# Altium integrated library Renesas Microcontroller M16C.IntLib: 423 symbols (part 18 of 30)
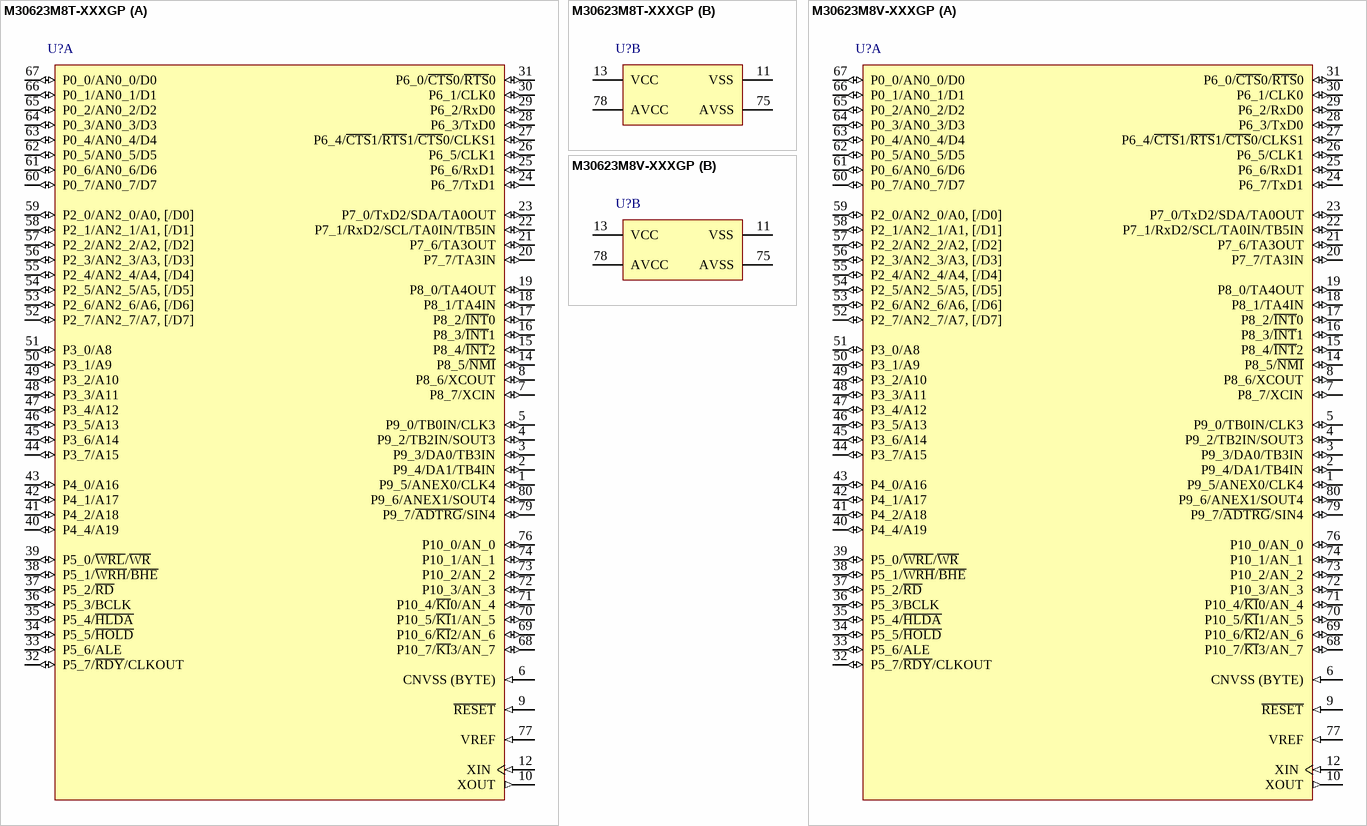
[diagram p203: symbols M30623M8T-XXXGP to M30623M8V-XXXGP]

## M30623M8V-XXXGP
designator U?
Mask ROM M16C/60 Series, 62T Group MCU, 64K ROM, 4K RAM, 80-pin QFP, +125°C; Note: P7_0 and P7_1 are N channel open-drain output pins.; Published: 28-Aug-2009; DatasheetVersion: Rev.A1, Aug-1999; PackageVersion: Sep-2005; PackageReference: PRQP0080JA-A; Publisher: Altium Limited; PackageDescription: 80-Pin Plastic Quad Flat Pack, 14 x 14 x 2.8 mm Body, 0.65 mm Pitch; Code_JEITA: P-QFP80-14x14-0.65; ComponentLink1Description: Manufacturer Link; ComponentLink1URL: http://sg.renesas.com/fmwk.jsp?cnt=m16c_family_landing.jsp&fp=/products/mpumcu/m16c_family/; ComponentLink2Description: Datasheet; ComponentLink2URL: http://documentation.renesas.com/eng/products/mpumcu/62teds.pdf; ComponentLink3Description: Packaging Specification; ComponentLink3URL: http://sg.renesas.com/media/products/common_info/package/pdf/ic/code/prqp0080ja_a.pdf
footprint PRQP0080JA-A_N (QFP, 80-Leads, Body 14x14mm, Pitch 0.65mm, IPC Medium Density)
footprint PRQP0080JA-A_L (QFP, 80-Leads, Body 14x14mm, Pitch 0.65mm, IPC High Density)
footprint PRQP0080JA-A_M (QFP, 80-Leads, Body 14x14mm, Pitch 0.65mm, IPC Low Density)
part A pins: 1 P9_5/ANEX0/CLK4 (io), 2 P9_4/DA1/TB4IN (io), 3 P9_3/DA0/TB3IN (io), 4 P9_2/TB2IN/SOUT3 (io), 5 P9_0/TB0IN/CLK3 (io), 6 CNVSS (BYTE) (in), 7 P8_7/XCIN (io), 8 P8_6/XCOUT (io), 9 ~{RESET} (in), 10 XOUT (out), 12 XIN (in), 14 P8_5/~{NMI} (io), 15 P8_4/~{INT}2 (io), 16 P8_3/~{INT}1 (io), 17 P8_2/~{INT}0 (io), 18 P8_1/TA4IN (io), 19 P8_0/TA4OUT (io), 20 P7_7/TA3IN (io), 21 P7_6/TA3OUT (io), 22 P7_1/RxD2/SCL/TA0IN/TB5IN (io), 23 P7_0/TxD2/SDA/TA0OUT (io), 24 P6_7/TxD1 (io), 25 P6_6/RxD1 (io), 26 P6_5/CLK1 (io), 27 P6_4/~{CTS}1/~{RTS}1/~{CTS}0/CLKS1 (io), 28 P6_3/TxD0 (io), 29 P6_2/RxD0 (io), 30 P6_1/CLK0 (io), 31 P6_0/~{CTS}0/~{RTS}0 (io), 32 P5_7/~{RDY}/CLKOUT (io), 33 P5_6/ALE (io), 34 P5_5/~{HOLD} (io), 35 P5_4/~{HLDA} (io), 36 P5_3/BCLK (io), 37 P5_2/~{RD} (io), 38 P5_1/~{WRH}/~{BHE} (io), 39 P5_0/~{WRL}/~{WR} (io), 40 P4_4/A19 (io), 41 P4_2/A18 (io), 42 P4_1/A17 (io), 43 P4_0/A16 (io), 44 P3_7/A15 (io), 45 P3_6/A14 (io), 46 P3_5/A13 (io), 47 P3_4/A12 (io), 48 P3_3/A11 (io), 49 P3_2/A10 (io), 50 P3_1/A9 (io), 51 P3_0/A8 (io), 52 P2_7/AN2_7/A7, [/D7] (io), 53 P2_6/AN2_6/A6, [/D6] (io), 54 P2_5/AN2_5/A5, [/D5] (io), 55 P2_4/AN2_4/A4, [/D4] (io), 56 P2_3/AN2_3/A3, [/D3] (io), 57 P2_2/AN2_2/A2, [/D2] (io), 58 P2_1/AN2_1/A1, [/D1] (io), 59 P2_0/AN2_0/A0, [/D0] (io), 60 P0_7/AN0_7/D7 (io), 61 P0_6/AN0_6/D6 (io), 62 P0_5/AN0_5/D5 (io), 63 P0_4/AN0_4/D4 (io), 64 P0_3/AN0_3/D3 (io), 65 P0_2/AN0_2/D2 (io), 66 P0_1/AN0_1/D1 (io), 67 P0_0/AN0_0/D0 (io), 68 P10_7/~{KI}3/AN_7 (io), 69 P10_6/~{KI}2/AN_6 (io), 70 P10_5/~{KI}1/AN_5 (io), 71 P10_4/~{KI}0/AN_4 (io), 72 P10_3/AN_3 (io), 73 P10_2/AN_2 (io), 74 P10_1/AN_1 (io), 76 P10_0/AN_0 (io), 77 VREF (in), 79 P9_7/~{ADTRG}/SIN4 (io), 80 P9_6/ANEX1/SOUT4 (io)
part B pins: 11 VSS (power), 13 VCC (power), 75 AVSS (power), 78 AVCC (power)

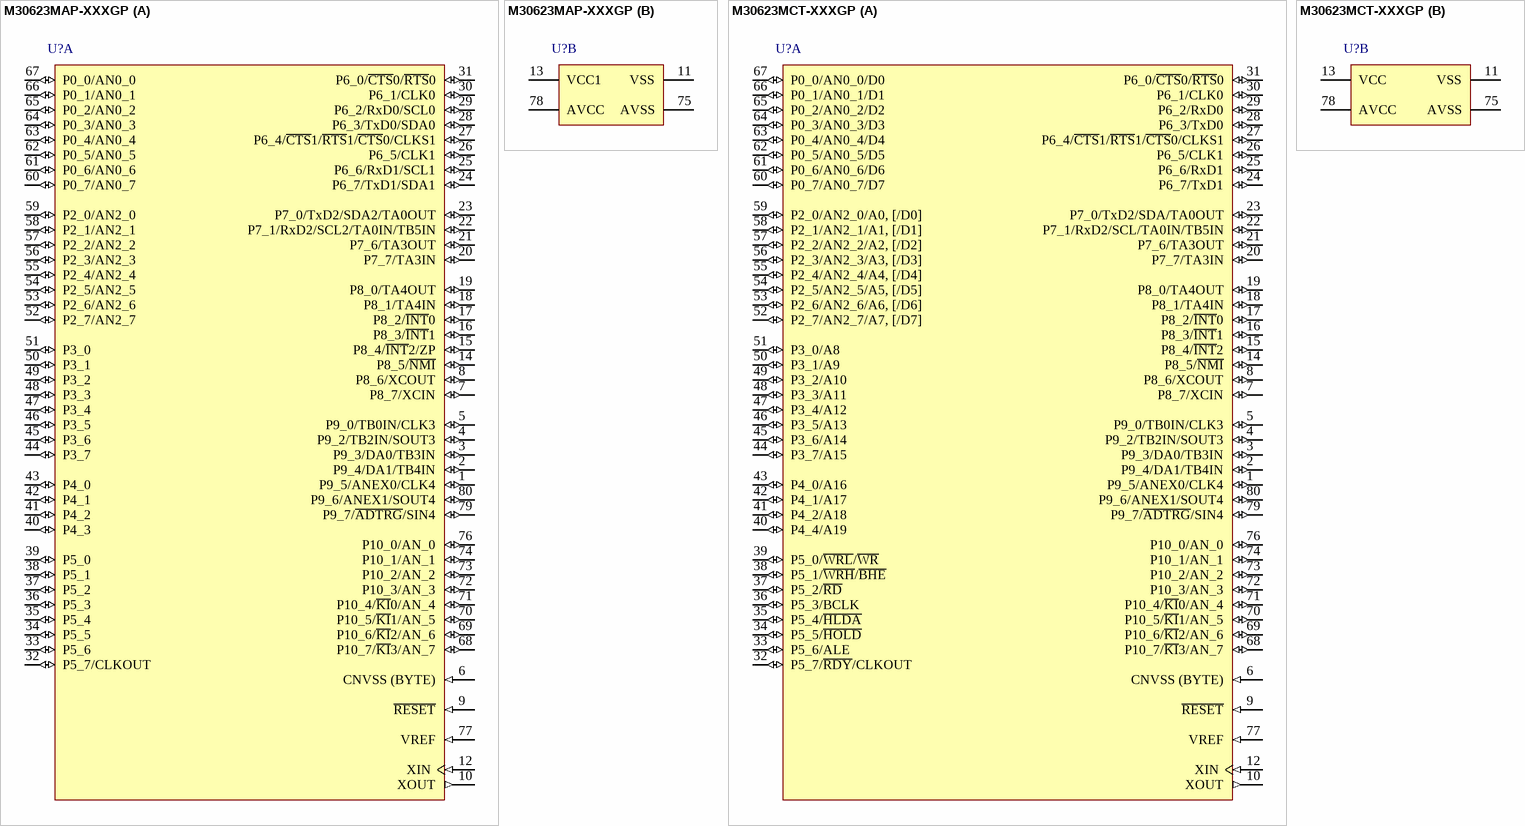
[diagram p107: symbols M30623MAP-XXXGP to M30623MCT-XXXGP]

## M30623MAP-XXXGP
designator U?
Mask ROM M16C/60 Series, 62P Group MCU, 96K ROM, 5K RAM, 80-pin QFP; Note: P7_0 and P7_1 are N channel open-drain output pins.; Published: 28-Aug-2009; DatasheetVersion: Rev.2.41, Jan-2006; PackageVersion: Sep-2005; PackageReference: PRQP0080JA-A; Publisher: Altium Limited; PackageDescription: 80-Pin Plastic Quad Flat Pack, 14 x 14 x 2.8 mm Body, 0.65 mm Pitch; Code_JEITA: P-QFP80-14x14-0.65; ComponentLink1Description: Manufacturer Link; ComponentLink1URL: http://sg.renesas.com/fmwk.jsp?cnt=m16c_family_landing.jsp&fp=/products/mpumcu/m16c_family/; ComponentLink2Description: Datasheet; ComponentLink2URL: http://documentation.renesas.com/eng/products/mpumcu/rej09b0185_16c62pthm.pdf; ComponentLink3Description: Packaging Specification; ComponentLink3URL: http://sg.renesas.com/media/products/common_info/package/pdf/ic/code/prqp0080ja_a.pdf
footprint PRQP0080JA-A_N (QFP, 80-Leads, Body 14x14mm, Pitch 0.65mm, IPC Medium Density)
footprint PRQP0080JA-A_L (QFP, 80-Leads, Body 14x14mm, Pitch 0.65mm, IPC High Density)
footprint PRQP0080JA-A_M (QFP, 80-Leads, Body 14x14mm, Pitch 0.65mm, IPC Low Density)
part A pins: 1 P9_5/ANEX0/CLK4 (io), 2 P9_4/DA1/TB4IN (io), 3 P9_3/DA0/TB3IN (io), 4 P9_2/TB2IN/SOUT3 (io), 5 P9_0/TB0IN/CLK3 (io), 6 CNVSS (BYTE) (in), 7 P8_7/XCIN (io), 8 P8_6/XCOUT (io), 9 ~{RESET} (in), 10 XOUT (out), 12 XIN (in), 14 P8_5/~{NMI} (io), 15 P8_4/~{INT}2/ZP (io), 16 P8_3/~{INT}1 (io), 17 P8_2/~{INT}0 (io), 18 P8_1/TA4IN (io), 19 P8_0/TA4OUT (io), 20 P7_7/TA3IN (io), 21 P7_6/TA3OUT (io), 22 P7_1/RxD2/SCL2/TA0IN/TB5IN (io), 23 P7_0/TxD2/SDA2/TA0OUT (io), 24 P6_7/TxD1/SDA1 (io), 25 P6_6/RxD1/SCL1 (io), 26 P6_5/CLK1 (io), 27 P6_4/~{CTS}1/~{RTS}1/~{CTS}0/CLKS1 (io), 28 P6_3/TxD0/SDA0 (io), 29 P6_2/RxD0/SCL0 (io), 30 P6_1/CLK0 (io), 31 P6_0/~{CTS}0/~{RTS}0 (io), 32 P5_7/CLKOUT (io), 33 P5_6 (io), 34 P5_5 (io), 35 P5_4 (io), 36 P5_3 (io), 37 P5_2 (io), 38 P5_1 (io), 39 P5_0 (io), 40 P4_3 (io), 41 P4_2 (io), 42 P4_1 (io), 43 P4_0 (io), 44 P3_7 (io), 45 P3_6 (io), 46 P3_5 (io), 47 P3_4 (io), 48 P3_3 (io), 49 P3_2 (io), 50 P3_1 (io), 51 P3_0 (io), 52 P2_7/AN2_7 (io), 53 P2_6/AN2_6 (io), 54 P2_5/AN2_5 (io), 55 P2_4/AN2_4 (io), 56 P2_3/AN2_3 (io), 57 P2_2/AN2_2 (io), 58 P2_1/AN2_1 (io), 59 P2_0/AN2_0 (io), 60 P0_7/AN0_7 (io), 61 P0_6/AN0_6 (io), 62 P0_5/AN0_5 (io), 63 P0_4/AN0_4 (io), 64 P0_3/AN0_3 (io), 65 P0_2/AN0_2 (io), 66 P0_1/AN0_1 (io), 67 P0_0/AN0_0 (io), 68 P10_7/~{KI}3/AN_7 (io), 69 P10_6/~{KI}2/AN_6 (io), 70 P10_5/~{KI}1/AN_5 (io), 71 P10_4/~{KI}0/AN_4 (io), 72 P10_3/AN_3 (io), 73 P10_2/AN_2 (io), 74 P10_1/AN_1 (io), 76 P10_0/AN_0 (io), 77 VREF (in), 79 P9_7/~{ADTRG}/SIN4 (io), 80 P9_6/ANEX1/SOUT4 (io)
part B pins: 11 VSS (power), 13 VCC1 (power), 75 AVSS (power), 78 AVCC (power)

## M30623MCT-XXXGP
designator U?
Mask ROM M16C/60 Series, 62T Group MCU, 128K ROM, 5K RAM, 80-pin QFP, +85°C; Note: P7_0 and P7_1 are N channel open-drain output pins.; Published: 28-Aug-2009; DatasheetVersion: Rev.A1, Aug-1999; PackageVersion: Sep-2005; PackageReference: PRQP0080JA-A; Publisher: Altium Limited; PackageDescription: 80-Pin Plastic Quad Flat Pack, 14 x 14 x 2.8 mm Body, 0.65 mm Pitch; Code_JEITA: P-QFP80-14x14-0.65; ComponentLink1Description: Manufacturer Link; ComponentLink1URL: http://sg.renesas.com/fmwk.jsp?cnt=m16c_family_landing.jsp&fp=/products/mpumcu/m16c_family/; ComponentLink2Description: Datasheet; ComponentLink2URL: http://documentation.renesas.com/eng/products/mpumcu/62teds.pdf; ComponentLink3Description: Packaging Specification; ComponentLink3URL: http://sg.renesas.com/media/products/common_info/package/pdf/ic/code/prqp0080ja_a.pdf
footprint PRQP0080JA-A_N (QFP, 80-Leads, Body 14x14mm, Pitch 0.65mm, IPC Medium Density)
footprint PRQP0080JA-A_L (QFP, 80-Leads, Body 14x14mm, Pitch 0.65mm, IPC High Density)
footprint PRQP0080JA-A_M (QFP, 80-Leads, Body 14x14mm, Pitch 0.65mm, IPC Low Density)
part A pins: 1 P9_5/ANEX0/CLK4 (io), 2 P9_4/DA1/TB4IN (io), 3 P9_3/DA0/TB3IN (io), 4 P9_2/TB2IN/SOUT3 (io), 5 P9_0/TB0IN/CLK3 (io), 6 CNVSS (BYTE) (in), 7 P8_7/XCIN (io), 8 P8_6/XCOUT (io), 9 ~{RESET} (in), 10 XOUT (out), 12 XIN (in), 14 P8_5/~{NMI} (io), 15 P8_4/~{INT}2 (io), 16 P8_3/~{INT}1 (io), 17 P8_2/~{INT}0 (io), 18 P8_1/TA4IN (io), 19 P8_0/TA4OUT (io), 20 P7_7/TA3IN (io), 21 P7_6/TA3OUT (io), 22 P7_1/RxD2/SCL/TA0IN/TB5IN (io), 23 P7_0/TxD2/SDA/TA0OUT (io), 24 P6_7/TxD1 (io), 25 P6_6/RxD1 (io), 26 P6_5/CLK1 (io), 27 P6_4/~{CTS}1/~{RTS}1/~{CTS}0/CLKS1 (io), 28 P6_3/TxD0 (io), 29 P6_2/RxD0 (io), 30 P6_1/CLK0 (io), 31 P6_0/~{CTS}0/~{RTS}0 (io), 32 P5_7/~{RDY}/CLKOUT (io), 33 P5_6/ALE (io), 34 P5_5/~{HOLD} (io), 35 P5_4/~{HLDA} (io), 36 P5_3/BCLK (io), 37 P5_2/~{RD} (io), 38 P5_1/~{WRH}/~{BHE} (io), 39 P5_0/~{WRL}/~{WR} (io), 40 P4_4/A19 (io), 41 P4_2/A18 (io), 42 P4_1/A17 (io), 43 P4_0/A16 (io), 44 P3_7/A15 (io), 45 P3_6/A14 (io), 46 P3_5/A13 (io), 47 P3_4/A12 (io), 48 P3_3/A11 (io), 49 P3_2/A10 (io), 50 P3_1/A9 (io), 51 P3_0/A8 (io), 52 P2_7/AN2_7/A7, [/D7] (io), 53 P2_6/AN2_6/A6, [/D6] (io), 54 P2_5/AN2_5/A5, [/D5] (io), 55 P2_4/AN2_4/A4, [/D4] (io), 56 P2_3/AN2_3/A3, [/D3] (io), 57 P2_2/AN2_2/A2, [/D2] (io), 58 P2_1/AN2_1/A1, [/D1] (io), 59 P2_0/AN2_0/A0, [/D0] (io), 60 P0_7/AN0_7/D7 (io), 61 P0_6/AN0_6/D6 (io), 62 P0_5/AN0_5/D5 (io), 63 P0_4/AN0_4/D4 (io), 64 P0_3/AN0_3/D3 (io), 65 P0_2/AN0_2/D2 (io), 66 P0_1/AN0_1/D1 (io), 67 P0_0/AN0_0/D0 (io), 68 P10_7/~{KI}3/AN_7 (io), 69 P10_6/~{KI}2/AN_6 (io), 70 P10_5/~{KI}1/AN_5 (io), 71 P10_4/~{KI}0/AN_4 (io), 72 P10_3/AN_3 (io), 73 P10_2/AN_2 (io), 74 P10_1/AN_1 (io), 76 P10_0/AN_0 (io), 77 VREF (in), 79 P9_7/~{ADTRG}/SIN4 (io), 80 P9_6/ANEX1/SOUT4 (io)
part B pins: 11 VSS (power), 13 VCC (power), 75 AVSS (power), 78 AVCC (power)

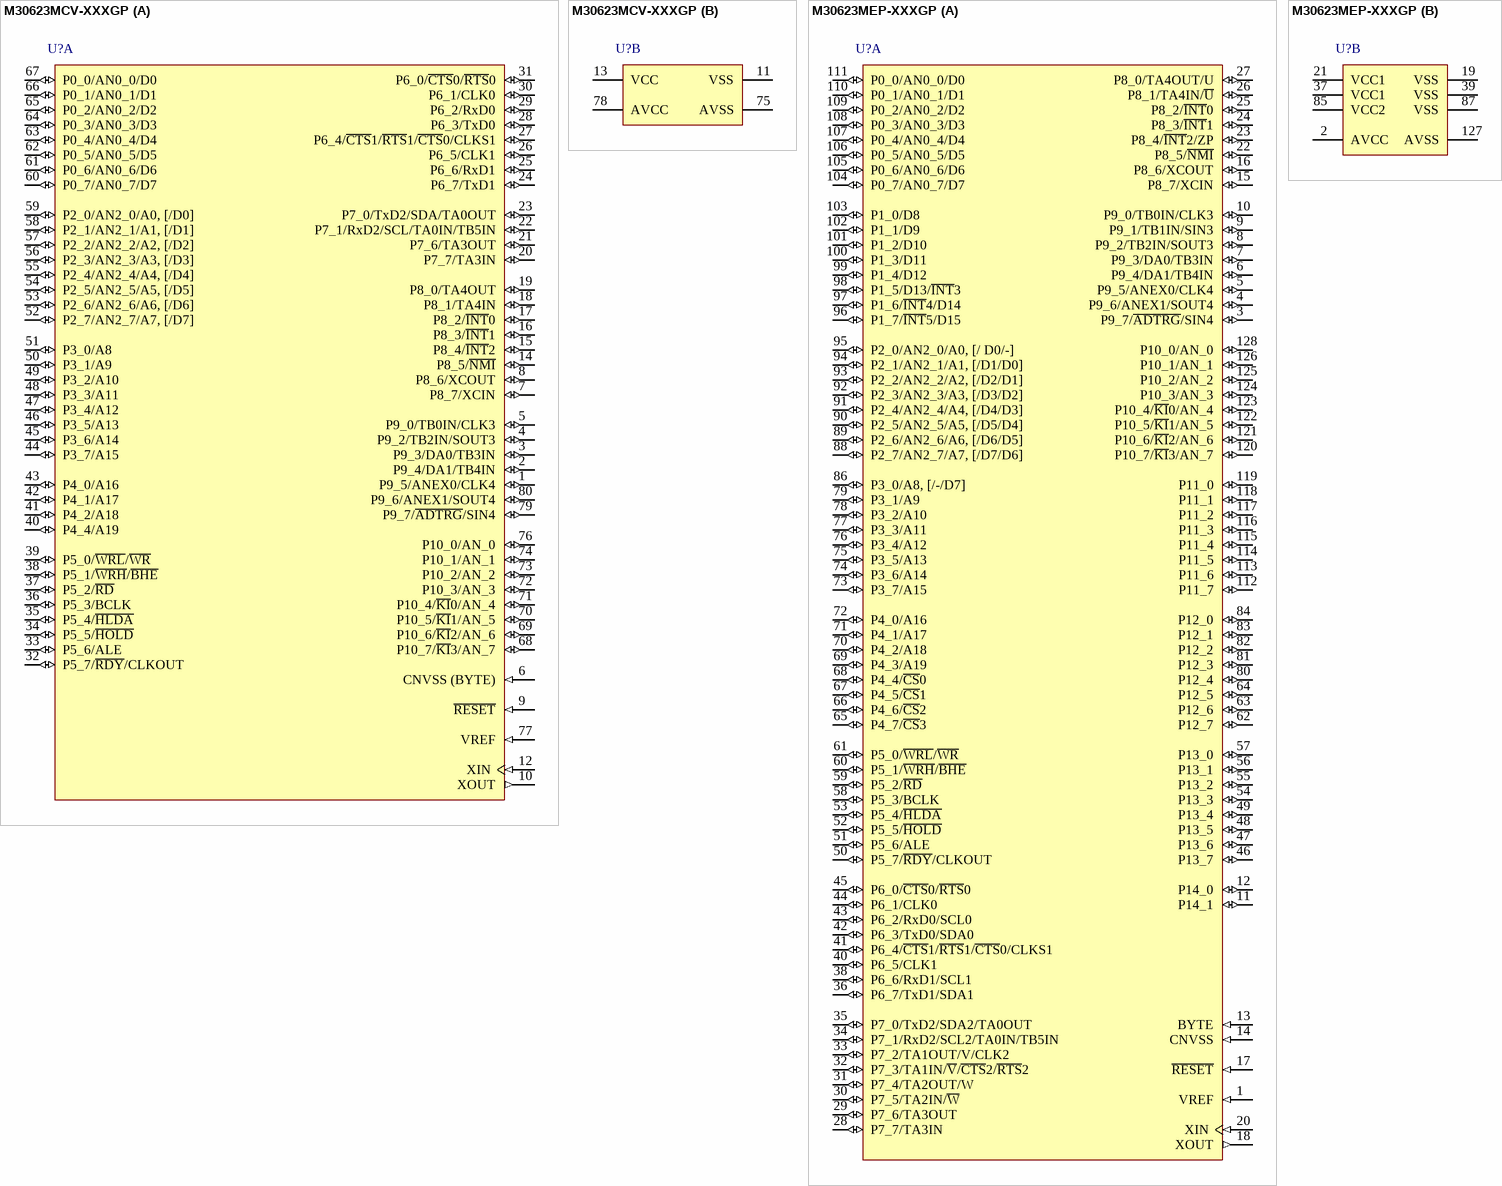
[diagram p108: symbols M30623MCV-XXXGP to M30623MEP-XXXGP]

## M30623MCV-XXXGP
designator U?
Mask ROM M16C/60 Series, 62T Group MCU, 128K ROM, 5K RAM, 80-pin QFP, +125°C; Note: P7_0 and P7_1 are N channel open-drain output pins.; Published: 28-Aug-2009; DatasheetVersion: Rev.A1, Aug-1999; PackageVersion: Sep-2005; PackageReference: PRQP0080JA-A; Publisher: Altium Limited; PackageDescription: 80-Pin Plastic Quad Flat Pack, 14 x 14 x 2.8 mm Body, 0.65 mm Pitch; Code_JEITA: P-QFP80-14x14-0.65; ComponentLink1Description: Manufacturer Link; ComponentLink1URL: http://sg.renesas.com/fmwk.jsp?cnt=m16c_family_landing.jsp&fp=/products/mpumcu/m16c_family/; ComponentLink2Description: Datasheet; ComponentLink2URL: http://documentation.renesas.com/eng/products/mpumcu/62teds.pdf; ComponentLink3Description: Packaging Specification; ComponentLink3URL: http://sg.renesas.com/media/products/common_info/package/pdf/ic/code/prqp0080ja_a.pdf
footprint PRQP0080JA-A_N (QFP, 80-Leads, Body 14x14mm, Pitch 0.65mm, IPC Medium Density)
footprint PRQP0080JA-A_L (QFP, 80-Leads, Body 14x14mm, Pitch 0.65mm, IPC High Density)
footprint PRQP0080JA-A_M (QFP, 80-Leads, Body 14x14mm, Pitch 0.65mm, IPC Low Density)
part A pins: 1 P9_5/ANEX0/CLK4 (io), 2 P9_4/DA1/TB4IN (io), 3 P9_3/DA0/TB3IN (io), 4 P9_2/TB2IN/SOUT3 (io), 5 P9_0/TB0IN/CLK3 (io), 6 CNVSS (BYTE) (in), 7 P8_7/XCIN (io), 8 P8_6/XCOUT (io), 9 ~{RESET} (in), 10 XOUT (out), 12 XIN (in), 14 P8_5/~{NMI} (io), 15 P8_4/~{INT}2 (io), 16 P8_3/~{INT}1 (io), 17 P8_2/~{INT}0 (io), 18 P8_1/TA4IN (io), 19 P8_0/TA4OUT (io), 20 P7_7/TA3IN (io), 21 P7_6/TA3OUT (io), 22 P7_1/RxD2/SCL/TA0IN/TB5IN (io), 23 P7_0/TxD2/SDA/TA0OUT (io), 24 P6_7/TxD1 (io), 25 P6_6/RxD1 (io), 26 P6_5/CLK1 (io), 27 P6_4/~{CTS}1/~{RTS}1/~{CTS}0/CLKS1 (io), 28 P6_3/TxD0 (io), 29 P6_2/RxD0 (io), 30 P6_1/CLK0 (io), 31 P6_0/~{CTS}0/~{RTS}0 (io), 32 P5_7/~{RDY}/CLKOUT (io), 33 P5_6/ALE (io), 34 P5_5/~{HOLD} (io), 35 P5_4/~{HLDA} (io), 36 P5_3/BCLK (io), 37 P5_2/~{RD} (io), 38 P5_1/~{WRH}/~{BHE} (io), 39 P5_0/~{WRL}/~{WR} (io), 40 P4_4/A19 (io), 41 P4_2/A18 (io), 42 P4_1/A17 (io), 43 P4_0/A16 (io), 44 P3_7/A15 (io), 45 P3_6/A14 (io), 46 P3_5/A13 (io), 47 P3_4/A12 (io), 48 P3_3/A11 (io), 49 P3_2/A10 (io), 50 P3_1/A9 (io), 51 P3_0/A8 (io), 52 P2_7/AN2_7/A7, [/D7] (io), 53 P2_6/AN2_6/A6, [/D6] (io), 54 P2_5/AN2_5/A5, [/D5] (io), 55 P2_4/AN2_4/A4, [/D4] (io), 56 P2_3/AN2_3/A3, [/D3] (io), 57 P2_2/AN2_2/A2, [/D2] (io), 58 P2_1/AN2_1/A1, [/D1] (io), 59 P2_0/AN2_0/A0, [/D0] (io), 60 P0_7/AN0_7/D7 (io), 61 P0_6/AN0_6/D6 (io), 62 P0_5/AN0_5/D5 (io), 63 P0_4/AN0_4/D4 (io), 64 P0_3/AN0_3/D3 (io), 65 P0_2/AN0_2/D2 (io), 66 P0_1/AN0_1/D1 (io), 67 P0_0/AN0_0/D0 (io), 68 P10_7/~{KI}3/AN_7 (io), 69 P10_6/~{KI}2/AN_6 (io), 70 P10_5/~{KI}1/AN_5 (io), 71 P10_4/~{KI}0/AN_4 (io), 72 P10_3/AN_3 (io), 73 P10_2/AN_2 (io), 74 P10_1/AN_1 (io), 76 P10_0/AN_0 (io), 77 VREF (in), 79 P9_7/~{ADTRG}/SIN4 (io), 80 P9_6/ANEX1/SOUT4 (io)
part B pins: 11 VSS (power), 13 VCC (power), 75 AVSS (power), 78 AVCC (power)

## M30623MEP-XXXGP
designator U?
Mask ROM M16C/60 Series, 62P Group MCU, 192K ROM, 12K RAM, 128-pin PLQP; Note: P7_0 and P7_1 are N channel open-drain output pins.; Published: 28-Aug-2009; DatasheetVersion: Rev.2.41, Jan-2006; PackageVersion: Oct-2005; PackageReference: PLQP0128KB-A; Publisher: Altium Limited; PackageDescription: 128-Pin Plastic Low Profile Quad Flat Pack, 20 x 14 x 2.7 mm Body, 0.5 mm Pitch; Code_JEITA: P-LQFP128-14x20-0.50; Code_IPC: SQFP50P1600X2200-128; ComponentLink1Description: Manufacturer Link; ComponentLink1URL: http://sg.renesas.com/fmwk.jsp?cnt=m16c_family_landing.jsp&fp=/products/mpumcu/m16c_family/; ComponentLink2Description: Datasheet; ComponentLink2URL: http://documentation.renesas.com/eng/products/mpumcu/rej09b0185_16c62pthm.pdf; ComponentLink3Description: Packaging Specification; ComponentLink3URL: http://sg.renesas.com/media/products/common_info/package/pdf/ic/code/plqp0128kb_a.pdf
footprint PLQP0128KB-A_N (Shrink QFP, 128-Leads, Body 20x14 mm, Pitch 0.5mm, IPC Medium Density)
footprint PLQP0128KB-A_L (Shrink QFP, 128-Leads, Body 20x14 mm, Pitch 0.5mm, IPC High Density)
footprint PLQP0128KB-A_M (Shrink QFP, 128-Leads, Body 20x14 mm, Pitch 0.5mm, IPC Low Density)
part A pins: 1 VREF (in), 3 P9_7/~{ADTRG}/SIN4 (io), 4 P9_6/ANEX1/SOUT4 (io), 5 P9_5/ANEX0/CLK4 (io), 6 P9_4/DA1/TB4IN (io), 7 P9_3/DA0/TB3IN (io), 8 P9_2/TB2IN/SOUT3 (io), 9 P9_1/TB1IN/SIN3 (io), 10 P9_0/TB0IN/CLK3 (io), 11 P14_1 (io), 12 P14_0 (io), 13 BYTE (in), 14 CNVSS (in), 15 P8_7/XCIN (io), 16 P8_6/XCOUT (io), 17 ~{RESET} (in), 18 XOUT (out), 20 XIN (in), 22 P8_5/~{NMI} (io), 23 P8_4/~{INT}2/ZP (io), 24 P8_3/~{INT}1 (io), 25 P8_2/~{INT}0 (io), 26 P8_1/TA4IN/~{U} (io), 27 P8_0/TA4OUT/U (io), 28 P7_7/TA3IN (io), 29 P7_6/TA3OUT (io), 30 P7_5/TA2IN/~{W} (io), 31 P7_4/TA2OUT/W (io), 32 P7_3/TA1IN/~{V}/~{CTS}2/~{RTS}2 (io), 33 P7_2/TA1OUT/V/CLK2 (io), 34 P7_1/RxD2/SCL2/TA0IN/TB5IN (io), 35 P7_0/TxD2/SDA2/TA0OUT (io), 36 P6_7/TxD1/SDA1 (io), 38 P6_6/RxD1/SCL1 (io), 40 P6_5/CLK1 (io), 41 P6_4/~{CTS}1/~{RTS}1/~{CTS}0/CLKS1 (io), 42 P6_3/TxD0/SDA0 (io), 43 P6_2/RxD0/SCL0 (io), 44 P6_1/CLK0 (io), 45 P6_0/~{CTS}0/~{RTS}0 (io), 46 P13_7 (io), 47 P13_6 (io), 48 P13_5 (io), 49 P13_4 (io), 50 P5_7/~{RDY}/CLKOUT (io), 51 P5_6/ALE (io), 52 P5_5/~{HOLD} (io), 53 P5_4/~{HLDA} (io), 54 P13_3 (io), 55 P13_2 (io), 56 P13_1 (io), 57 P13_0 (io), 58 P5_3/BCLK (io), 59 P5_2/~{RD} (io), 60 P5_1/~{WRH}/~{BHE} (io), 61 P5_0/~{WRL}/~{WR} (io), 62 P12_7 (io), 63 P12_6 (io), 64 P12_5 (io), 65 P4_7/~{CS}3 (io), 66 P4_6/~{CS}2 (io), 67 P4_5/~{CS}1 (io), 68 P4_4/~{CS}0 (io), 69 P4_3/A19 (io), 70 P4_2/A18 (io), 71 P4_1/A17 (io), 72 P4_0/A16 (io), 73 P3_7/A15 (io), 74 P3_6/A14 (io), 75 P3_5/A13 (io), 76 P3_4/A12 (io), 77 P3_3/A11 (io), 78 P3_2/A10 (io), 79 P3_1/A9 (io), 80 P12_4 (io), 81 P12_3 (io), 82 P12_2 (io), 83 P12_1 (io), 84 P12_0 (io), 86 P3_0/A8, [/-/D7] (io), 88 P2_7/AN2_7/A7, [/D7/D6] (io), 89 P2_6/AN2_6/A6, [/D6/D5] (io), 90 P2_5/AN2_5/A5, [/D5/D4] (io), 91 P2_4/AN2_4/A4, [/D4/D3] (io), 92 P2_3/AN2_3/A3, [/D3/D2] (io), 93 P2_2/AN2_2/A2, [/D2/D1] (io), 94 P2_1/AN2_1/A1, [/D1/D0] (io), 95 P2_0/AN2_0/A0, [/ D0/-] (io), 96 P1_7/~{INT}5/D15 (io), 97 P1_6/~{INT}4/D14 (io), 98 P1_5/D13/~{INT}3 (io), 99 P1_4/D12 (io), 100 P1_3/D11 (io), 101 P1_2/D10 (io), 102 P1_1/D9 (io), 103 P1_0/D8 (io), 104 P0_7/AN0_7/D7 (io), 105 P0_6/AN0_6/D6 (io), 106 P0_5/AN0_5/D5 (io), 107 P0_4/AN0_4/D4 (io), 108 P0_3/AN0_3/D3 (io), 109 P0_2/AN0_2/D2 (io), 110 P0_1/AN0_1/D1 (io), 111 P0_0/AN0_0/D0 (io), 112 P11_7 (io), 113 P11_6 (io), 114 P11_5 (io), 115 P11_4 (io), 116 P11_3 (io), 117 P11_2 (io), 118 P11_1 (io), 119 P11_0 (io), 120 P10_7/~{KI}3/AN_7 (io), 121 P10_6/~{KI}2/AN_6 (io), 122 P10_5/~{KI}1/AN_5 (io), 123 P10_4/~{KI}0/AN_4 (io), 124 P10_3/AN_3 (io), 125 P10_2/AN_2 (io), 126 P10_1/AN_1 (io), 128 P10_0/AN_0 (io)
part B pins: 2 AVCC (power), 19 VSS (power), 21 VCC1 (power), 37 VCC1 (power), 39 VSS (power), 85 VCC2 (power), 87 VSS (power), 127 AVSS (power)

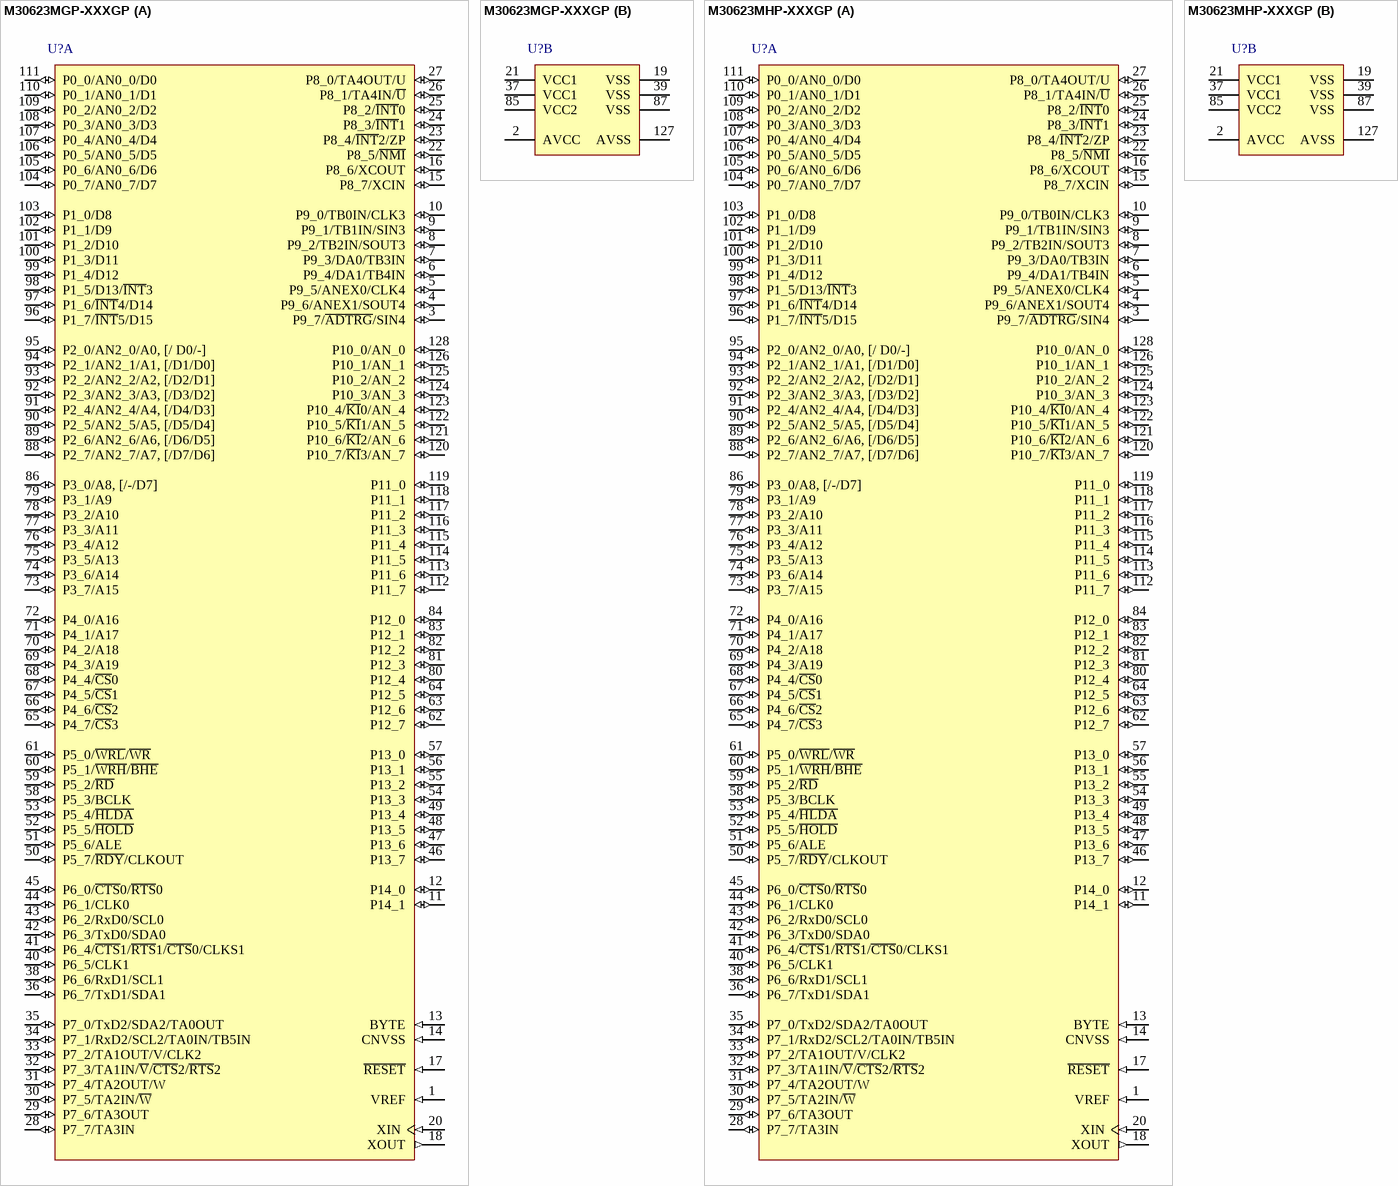
[diagram p109: symbols M30623MGP-XXXGP to M30623MHP-XXXGP]

## M30623MGP-XXXGP
designator U?
Mask ROM M16C/60 Series, 62P Group MCU, 256K ROM, 12K RAM, 128-pin PLQP; Note: P7_0 and P7_1 are N channel open-drain output pins.; Published: 28-Aug-2009; DatasheetVersion: Rev.2.41, Jan-2006; PackageVersion: Oct-2005; PackageReference: PLQP0128KB-A; Publisher: Altium Limited; PackageDescription: 128-Pin Plastic Low Profile Quad Flat Pack, 20 x 14 x 2.7 mm Body, 0.5 mm Pitch; Code_JEITA: P-LQFP128-14x20-0.50; Code_IPC: SQFP50P1600X2200-128; ComponentLink1Description: Manufacturer Link; ComponentLink1URL: http://sg.renesas.com/fmwk.jsp?cnt=m16c_family_landing.jsp&fp=/products/mpumcu/m16c_family/; ComponentLink2Description: Datasheet; ComponentLink2URL: http://documentation.renesas.com/eng/products/mpumcu/rej09b0185_16c62pthm.pdf; ComponentLink3Description: Packaging Specification; ComponentLink3URL: http://sg.renesas.com/media/products/common_info/package/pdf/ic/code/plqp0128kb_a.pdf
footprint PLQP0128KB-A_N (Shrink QFP, 128-Leads, Body 20x14 mm, Pitch 0.5mm, IPC Medium Density)
footprint PLQP0128KB-A_L (Shrink QFP, 128-Leads, Body 20x14 mm, Pitch 0.5mm, IPC High Density)
footprint PLQP0128KB-A_M (Shrink QFP, 128-Leads, Body 20x14 mm, Pitch 0.5mm, IPC Low Density)
part A pins: 1 VREF (in), 3 P9_7/~{ADTRG}/SIN4 (io), 4 P9_6/ANEX1/SOUT4 (io), 5 P9_5/ANEX0/CLK4 (io), 6 P9_4/DA1/TB4IN (io), 7 P9_3/DA0/TB3IN (io), 8 P9_2/TB2IN/SOUT3 (io), 9 P9_1/TB1IN/SIN3 (io), 10 P9_0/TB0IN/CLK3 (io), 11 P14_1 (io), 12 P14_0 (io), 13 BYTE (in), 14 CNVSS (in), 15 P8_7/XCIN (io), 16 P8_6/XCOUT (io), 17 ~{RESET} (in), 18 XOUT (out), 20 XIN (in), 22 P8_5/~{NMI} (io), 23 P8_4/~{INT}2/ZP (io), 24 P8_3/~{INT}1 (io), 25 P8_2/~{INT}0 (io), 26 P8_1/TA4IN/~{U} (io), 27 P8_0/TA4OUT/U (io), 28 P7_7/TA3IN (io), 29 P7_6/TA3OUT (io), 30 P7_5/TA2IN/~{W} (io), 31 P7_4/TA2OUT/W (io), 32 P7_3/TA1IN/~{V}/~{CTS}2/~{RTS}2 (io), 33 P7_2/TA1OUT/V/CLK2 (io), 34 P7_1/RxD2/SCL2/TA0IN/TB5IN (io), 35 P7_0/TxD2/SDA2/TA0OUT (io), 36 P6_7/TxD1/SDA1 (io), 38 P6_6/RxD1/SCL1 (io), 40 P6_5/CLK1 (io), 41 P6_4/~{CTS}1/~{RTS}1/~{CTS}0/CLKS1 (io), 42 P6_3/TxD0/SDA0 (io), 43 P6_2/RxD0/SCL0 (io), 44 P6_1/CLK0 (io), 45 P6_0/~{CTS}0/~{RTS}0 (io), 46 P13_7 (io), 47 P13_6 (io), 48 P13_5 (io), 49 P13_4 (io), 50 P5_7/~{RDY}/CLKOUT (io), 51 P5_6/ALE (io), 52 P5_5/~{HOLD} (io), 53 P5_4/~{HLDA} (io), 54 P13_3 (io), 55 P13_2 (io), 56 P13_1 (io), 57 P13_0 (io), 58 P5_3/BCLK (io), 59 P5_2/~{RD} (io), 60 P5_1/~{WRH}/~{BHE} (io), 61 P5_0/~{WRL}/~{WR} (io), 62 P12_7 (io), 63 P12_6 (io), 64 P12_5 (io), 65 P4_7/~{CS}3 (io), 66 P4_6/~{CS}2 (io), 67 P4_5/~{CS}1 (io), 68 P4_4/~{CS}0 (io), 69 P4_3/A19 (io), 70 P4_2/A18 (io), 71 P4_1/A17 (io), 72 P4_0/A16 (io), 73 P3_7/A15 (io), 74 P3_6/A14 (io), 75 P3_5/A13 (io), 76 P3_4/A12 (io), 77 P3_3/A11 (io), 78 P3_2/A10 (io), 79 P3_1/A9 (io), 80 P12_4 (io), 81 P12_3 (io), 82 P12_2 (io), 83 P12_1 (io), 84 P12_0 (io), 86 P3_0/A8, [/-/D7] (io), 88 P2_7/AN2_7/A7, [/D7/D6] (io), 89 P2_6/AN2_6/A6, [/D6/D5] (io), 90 P2_5/AN2_5/A5, [/D5/D4] (io), 91 P2_4/AN2_4/A4, [/D4/D3] (io), 92 P2_3/AN2_3/A3, [/D3/D2] (io), 93 P2_2/AN2_2/A2, [/D2/D1] (io), 94 P2_1/AN2_1/A1, [/D1/D0] (io), 95 P2_0/AN2_0/A0, [/ D0/-] (io), 96 P1_7/~{INT}5/D15 (io), 97 P1_6/~{INT}4/D14 (io), 98 P1_5/D13/~{INT}3 (io), 99 P1_4/D12 (io), 100 P1_3/D11 (io), 101 P1_2/D10 (io), 102 P1_1/D9 (io), 103 P1_0/D8 (io), 104 P0_7/AN0_7/D7 (io), 105 P0_6/AN0_6/D6 (io), 106 P0_5/AN0_5/D5 (io), 107 P0_4/AN0_4/D4 (io), 108 P0_3/AN0_3/D3 (io), 109 P0_2/AN0_2/D2 (io), 110 P0_1/AN0_1/D1 (io), 111 P0_0/AN0_0/D0 (io), 112 P11_7 (io), 113 P11_6 (io), 114 P11_5 (io), 115 P11_4 (io), 116 P11_3 (io), 117 P11_2 (io), 118 P11_1 (io), 119 P11_0 (io), 120 P10_7/~{KI}3/AN_7 (io), 121 P10_6/~{KI}2/AN_6 (io), 122 P10_5/~{KI}1/AN_5 (io), 123 P10_4/~{KI}0/AN_4 (io), 124 P10_3/AN_3 (io), 125 P10_2/AN_2 (io), 126 P10_1/AN_1 (io), 128 P10_0/AN_0 (io)
part B pins: 2 AVCC (power), 19 VSS (power), 21 VCC1 (power), 37 VCC1 (power), 39 VSS (power), 85 VCC2 (power), 87 VSS (power), 127 AVSS (power)

## M30623MHP-XXXGP
designator U?
Mask ROM M16C/60 Series, 62P Group MCU, 384K ROM, 16K RAM, 128-pin PLQP; Note: P7_0 and P7_1 are N channel open-drain output pins.; Published: 28-Aug-2009; DatasheetVersion: Rev.2.41, Jan-2006; PackageVersion: Oct-2005; PackageReference: PLQP0128KB-A; Publisher: Altium Limited; PackageDescription: 128-Pin Plastic Low Profile Quad Flat Pack, 20 x 14 x 2.7 mm Body, 0.5 mm Pitch; Code_JEITA: P-LQFP128-14x20-0.50; Code_IPC: SQFP50P1600X2200-128; ComponentLink1Description: Manufacturer Link; ComponentLink1URL: http://sg.renesas.com/fmwk.jsp?cnt=m16c_family_landing.jsp&fp=/products/mpumcu/m16c_family/; ComponentLink2Description: Datasheet; ComponentLink2URL: http://documentation.renesas.com/eng/products/mpumcu/rej09b0185_16c62pthm.pdf; ComponentLink3Description: Packaging Specification; ComponentLink3URL: http://sg.renesas.com/media/products/common_info/package/pdf/ic/code/plqp0128kb_a.pdf
footprint PLQP0128KB-A_N (Shrink QFP, 128-Leads, Body 20x14 mm, Pitch 0.5mm, IPC Medium Density)
footprint PLQP0128KB-A_L (Shrink QFP, 128-Leads, Body 20x14 mm, Pitch 0.5mm, IPC High Density)
footprint PLQP0128KB-A_M (Shrink QFP, 128-Leads, Body 20x14 mm, Pitch 0.5mm, IPC Low Density)
part A pins: 1 VREF (in), 3 P9_7/~{ADTRG}/SIN4 (io), 4 P9_6/ANEX1/SOUT4 (io), 5 P9_5/ANEX0/CLK4 (io), 6 P9_4/DA1/TB4IN (io), 7 P9_3/DA0/TB3IN (io), 8 P9_2/TB2IN/SOUT3 (io), 9 P9_1/TB1IN/SIN3 (io), 10 P9_0/TB0IN/CLK3 (io), 11 P14_1 (io), 12 P14_0 (io), 13 BYTE (in), 14 CNVSS (in), 15 P8_7/XCIN (io), 16 P8_6/XCOUT (io), 17 ~{RESET} (in), 18 XOUT (out), 20 XIN (in), 22 P8_5/~{NMI} (io), 23 P8_4/~{INT}2/ZP (io), 24 P8_3/~{INT}1 (io), 25 P8_2/~{INT}0 (io), 26 P8_1/TA4IN/~{U} (io), 27 P8_0/TA4OUT/U (io), 28 P7_7/TA3IN (io), 29 P7_6/TA3OUT (io), 30 P7_5/TA2IN/~{W} (io), 31 P7_4/TA2OUT/W (io), 32 P7_3/TA1IN/~{V}/~{CTS}2/~{RTS}2 (io), 33 P7_2/TA1OUT/V/CLK2 (io), 34 P7_1/RxD2/SCL2/TA0IN/TB5IN (io), 35 P7_0/TxD2/SDA2/TA0OUT (io), 36 P6_7/TxD1/SDA1 (io), 38 P6_6/RxD1/SCL1 (io), 40 P6_5/CLK1 (io), 41 P6_4/~{CTS}1/~{RTS}1/~{CTS}0/CLKS1 (io), 42 P6_3/TxD0/SDA0 (io), 43 P6_2/RxD0/SCL0 (io), 44 P6_1/CLK0 (io), 45 P6_0/~{CTS}0/~{RTS}0 (io), 46 P13_7 (io), 47 P13_6 (io), 48 P13_5 (io), 49 P13_4 (io), 50 P5_7/~{RDY}/CLKOUT (io), 51 P5_6/ALE (io), 52 P5_5/~{HOLD} (io), 53 P5_4/~{HLDA} (io), 54 P13_3 (io), 55 P13_2 (io), 56 P13_1 (io), 57 P13_0 (io), 58 P5_3/BCLK (io), 59 P5_2/~{RD} (io), 60 P5_1/~{WRH}/~{BHE} (io), 61 P5_0/~{WRL}/~{WR} (io), 62 P12_7 (io), 63 P12_6 (io), 64 P12_5 (io), 65 P4_7/~{CS}3 (io), 66 P4_6/~{CS}2 (io), 67 P4_5/~{CS}1 (io), 68 P4_4/~{CS}0 (io), 69 P4_3/A19 (io), 70 P4_2/A18 (io), 71 P4_1/A17 (io), 72 P4_0/A16 (io), 73 P3_7/A15 (io), 74 P3_6/A14 (io), 75 P3_5/A13 (io), 76 P3_4/A12 (io), 77 P3_3/A11 (io), 78 P3_2/A10 (io), 79 P3_1/A9 (io), 80 P12_4 (io), 81 P12_3 (io), 82 P12_2 (io), 83 P12_1 (io), 84 P12_0 (io), 86 P3_0/A8, [/-/D7] (io), 88 P2_7/AN2_7/A7, [/D7/D6] (io), 89 P2_6/AN2_6/A6, [/D6/D5] (io), 90 P2_5/AN2_5/A5, [/D5/D4] (io), 91 P2_4/AN2_4/A4, [/D4/D3] (io), 92 P2_3/AN2_3/A3, [/D3/D2] (io), 93 P2_2/AN2_2/A2, [/D2/D1] (io), 94 P2_1/AN2_1/A1, [/D1/D0] (io), 95 P2_0/AN2_0/A0, [/ D0/-] (io), 96 P1_7/~{INT}5/D15 (io), 97 P1_6/~{INT}4/D14 (io), 98 P1_5/D13/~{INT}3 (io), 99 P1_4/D12 (io), 100 P1_3/D11 (io), 101 P1_2/D10 (io), 102 P1_1/D9 (io), 103 P1_0/D8 (io), 104 P0_7/AN0_7/D7 (io), 105 P0_6/AN0_6/D6 (io), 106 P0_5/AN0_5/D5 (io), 107 P0_4/AN0_4/D4 (io), 108 P0_3/AN0_3/D3 (io), 109 P0_2/AN0_2/D2 (io), 110 P0_1/AN0_1/D1 (io), 111 P0_0/AN0_0/D0 (io), 112 P11_7 (io), 113 P11_6 (io), 114 P11_5 (io), 115 P11_4 (io), 116 P11_3 (io), 117 P11_2 (io), 118 P11_1 (io), 119 P11_0 (io), 120 P10_7/~{KI}3/AN_7 (io), 121 P10_6/~{KI}2/AN_6 (io), 122 P10_5/~{KI}1/AN_5 (io), 123 P10_4/~{KI}0/AN_4 (io), 124 P10_3/AN_3 (io), 125 P10_2/AN_2 (io), 126 P10_1/AN_1 (io), 128 P10_0/AN_0 (io)
part B pins: 2 AVCC (power), 19 VSS (power), 21 VCC1 (power), 37 VCC1 (power), 39 VSS (power), 85 VCC2 (power), 87 VSS (power), 127 AVSS (power)

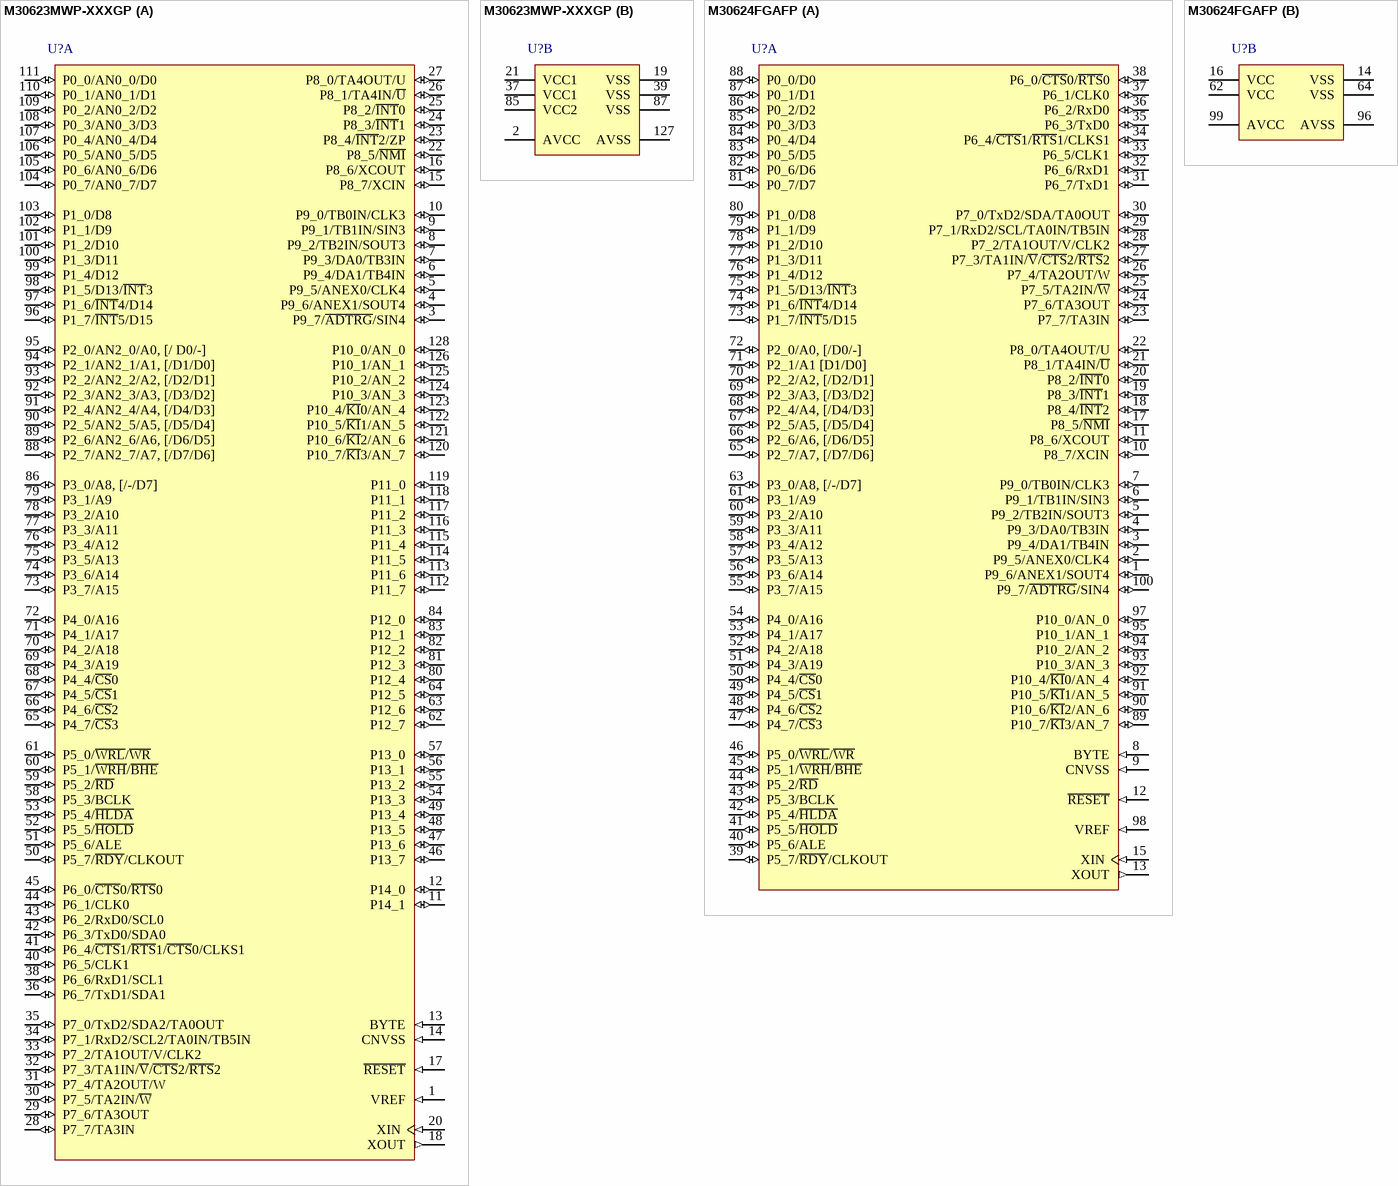
[diagram p110: symbols M30623MWP-XXXGP to M30624FGAFP]

## M30623MWP-XXXGP
designator U?
Mask ROM M16C/60 Series, 62P Group MCU, 320K ROM, 16K RAM, 128-pin PLQP; Note: P7_0 and P7_1 are N channel open-drain output pins.; Published: 28-Aug-2009; DatasheetVersion: Rev.2.41, Jan-2006; PackageVersion: Oct-2005; PackageReference: PLQP0128KB-A; Publisher: Altium Limited; PackageDescription: 128-Pin Plastic Low Profile Quad Flat Pack, 20 x 14 x 2.7 mm Body, 0.5 mm Pitch; Code_JEITA: P-LQFP128-14x20-0.50; Code_IPC: SQFP50P1600X2200-128; ComponentLink1Description: Manufacturer Link; ComponentLink1URL: http://sg.renesas.com/fmwk.jsp?cnt=m16c_family_landing.jsp&fp=/products/mpumcu/m16c_family/; ComponentLink2Description: Datasheet; ComponentLink2URL: http://documentation.renesas.com/eng/products/mpumcu/rej09b0185_16c62pthm.pdf; ComponentLink3Description: Packaging Specification; ComponentLink3URL: http://sg.renesas.com/media/products/common_info/package/pdf/ic/code/plqp0128kb_a.pdf
footprint PLQP0128KB-A_N (Shrink QFP, 128-Leads, Body 20x14 mm, Pitch 0.5mm, IPC Medium Density)
footprint PLQP0128KB-A_L (Shrink QFP, 128-Leads, Body 20x14 mm, Pitch 0.5mm, IPC High Density)
footprint PLQP0128KB-A_M (Shrink QFP, 128-Leads, Body 20x14 mm, Pitch 0.5mm, IPC Low Density)
part A pins: 1 VREF (in), 3 P9_7/~{ADTRG}/SIN4 (io), 4 P9_6/ANEX1/SOUT4 (io), 5 P9_5/ANEX0/CLK4 (io), 6 P9_4/DA1/TB4IN (io), 7 P9_3/DA0/TB3IN (io), 8 P9_2/TB2IN/SOUT3 (io), 9 P9_1/TB1IN/SIN3 (io), 10 P9_0/TB0IN/CLK3 (io), 11 P14_1 (io), 12 P14_0 (io), 13 BYTE (in), 14 CNVSS (in), 15 P8_7/XCIN (io), 16 P8_6/XCOUT (io), 17 ~{RESET} (in), 18 XOUT (out), 20 XIN (in), 22 P8_5/~{NMI} (io), 23 P8_4/~{INT}2/ZP (io), 24 P8_3/~{INT}1 (io), 25 P8_2/~{INT}0 (io), 26 P8_1/TA4IN/~{U} (io), 27 P8_0/TA4OUT/U (io), 28 P7_7/TA3IN (io), 29 P7_6/TA3OUT (io), 30 P7_5/TA2IN/~{W} (io), 31 P7_4/TA2OUT/W (io), 32 P7_3/TA1IN/~{V}/~{CTS}2/~{RTS}2 (io), 33 P7_2/TA1OUT/V/CLK2 (io), 34 P7_1/RxD2/SCL2/TA0IN/TB5IN (io), 35 P7_0/TxD2/SDA2/TA0OUT (io), 36 P6_7/TxD1/SDA1 (io), 38 P6_6/RxD1/SCL1 (io), 40 P6_5/CLK1 (io), 41 P6_4/~{CTS}1/~{RTS}1/~{CTS}0/CLKS1 (io), 42 P6_3/TxD0/SDA0 (io), 43 P6_2/RxD0/SCL0 (io), 44 P6_1/CLK0 (io), 45 P6_0/~{CTS}0/~{RTS}0 (io), 46 P13_7 (io), 47 P13_6 (io), 48 P13_5 (io), 49 P13_4 (io), 50 P5_7/~{RDY}/CLKOUT (io), 51 P5_6/ALE (io), 52 P5_5/~{HOLD} (io), 53 P5_4/~{HLDA} (io), 54 P13_3 (io), 55 P13_2 (io), 56 P13_1 (io), 57 P13_0 (io), 58 P5_3/BCLK (io), 59 P5_2/~{RD} (io), 60 P5_1/~{WRH}/~{BHE} (io), 61 P5_0/~{WRL}/~{WR} (io), 62 P12_7 (io), 63 P12_6 (io), 64 P12_5 (io), 65 P4_7/~{CS}3 (io), 66 P4_6/~{CS}2 (io), 67 P4_5/~{CS}1 (io), 68 P4_4/~{CS}0 (io), 69 P4_3/A19 (io), 70 P4_2/A18 (io), 71 P4_1/A17 (io), 72 P4_0/A16 (io), 73 P3_7/A15 (io), 74 P3_6/A14 (io), 75 P3_5/A13 (io), 76 P3_4/A12 (io), 77 P3_3/A11 (io), 78 P3_2/A10 (io), 79 P3_1/A9 (io), 80 P12_4 (io), 81 P12_3 (io), 82 P12_2 (io), 83 P12_1 (io), 84 P12_0 (io), 86 P3_0/A8, [/-/D7] (io), 88 P2_7/AN2_7/A7, [/D7/D6] (io), 89 P2_6/AN2_6/A6, [/D6/D5] (io), 90 P2_5/AN2_5/A5, [/D5/D4] (io), 91 P2_4/AN2_4/A4, [/D4/D3] (io), 92 P2_3/AN2_3/A3, [/D3/D2] (io), 93 P2_2/AN2_2/A2, [/D2/D1] (io), 94 P2_1/AN2_1/A1, [/D1/D0] (io), 95 P2_0/AN2_0/A0, [/ D0/-] (io), 96 P1_7/~{INT}5/D15 (io), 97 P1_6/~{INT}4/D14 (io), 98 P1_5/D13/~{INT}3 (io), 99 P1_4/D12 (io), 100 P1_3/D11 (io), 101 P1_2/D10 (io), 102 P1_1/D9 (io), 103 P1_0/D8 (io), 104 P0_7/AN0_7/D7 (io), 105 P0_6/AN0_6/D6 (io), 106 P0_5/AN0_5/D5 (io), 107 P0_4/AN0_4/D4 (io), 108 P0_3/AN0_3/D3 (io), 109 P0_2/AN0_2/D2 (io), 110 P0_1/AN0_1/D1 (io), 111 P0_0/AN0_0/D0 (io), 112 P11_7 (io), 113 P11_6 (io), 114 P11_5 (io), 115 P11_4 (io), 116 P11_3 (io), 117 P11_2 (io), 118 P11_1 (io), 119 P11_0 (io), 120 P10_7/~{KI}3/AN_7 (io), 121 P10_6/~{KI}2/AN_6 (io), 122 P10_5/~{KI}1/AN_5 (io), 123 P10_4/~{KI}0/AN_4 (io), 124 P10_3/AN_3 (io), 125 P10_2/AN_2 (io), 126 P10_1/AN_1 (io), 128 P10_0/AN_0 (io)
part B pins: 2 AVCC (power), 19 VSS (power), 21 VCC1 (power), 37 VCC1 (power), 39 VSS (power), 85 VCC2 (power), 87 VSS (power), 127 AVSS (power)

## M30624FGAFP
designator U?
Flash Memory M16C/60 Series, 62A Group MCU, 256K ROM, 20K RAM, 100-pin RQFP; Note: P7_0 and P7_1 are N channel open-drain output pins.; Published: 28-Aug-2009; DatasheetVersion: Rev.1.0, Jun-2001; PackageVersion: Sep-2005; PackageReference: PRQP0100JB-A; Publisher: Altium Limited; PackageDescription: 100-Pin Plastic Quad Flat Pack, 20 x 14 x 2.8 mm Body, 0.65 mm Pitch; Code_JEITA: P-QFP100-14x20-0.65; ComponentLink1Description: Manufacturer Link; ComponentLink1URL: http://sg.renesas.com/fmwk.jsp?cnt=m16c_family_landing.jsp&fp=/products/mpumcu/m16c_family/; ComponentLink2Description: Datasheet; ComponentLink2URL: http://documentation.renesas.com/eng/products/mpumcu/62aeum.pdf; ComponentLink3Description: Packaging Specification; ComponentLink3URL: http://sg.renesas.com/media/products/common_info/package/pdf/ic/code/prqp0100jb_a.pdf
footprint PRQP0100JB-A_N (QFP, 100-Leads, Body 20x14mm, Pitch 0.65mm, IPC Medium Density)
footprint PRQP0100JB-A_L (QFP, 100-Leads, Body 20x14mm, Pitch 0.65mm, IPC High Density)
footprint PRQP0100JB-A_M (QFP, 100-Leads, Body 20x14mm, Pitch 0.65mm, IPC Low Density)
part A pins: 1 P9_6/ANEX1/SOUT4 (io), 2 P9_5/ANEX0/CLK4 (io), 3 P9_4/DA1/TB4IN (io), 4 P9_3/DA0/TB3IN (io), 5 P9_2/TB2IN/SOUT3 (io), 6 P9_1/TB1IN/SIN3 (io), 7 P9_0/TB0IN/CLK3 (io), 8 BYTE (in), 9 CNVSS (in), 10 P8_7/XCIN (io), 11 P8_6/XCOUT (io), 12 ~{RESET} (in), 13 XOUT (out), 15 XIN (in), 17 P8_5/~{NMI} (io), 18 P8_4/~{INT}2 (io), 19 P8_3/~{INT}1 (io), 20 P8_2/~{INT}0 (io), 21 P8_1/TA4IN/~{U} (io), 22 P8_0/TA4OUT/U (io), 23 P7_7/TA3IN (io), 24 P7_6/TA3OUT (io), 25 P7_5/TA2IN/~{W} (io), 26 P7_4/TA2OUT/W (io), 27 P7_3/TA1IN/~{V}/~{CTS}2/~{RTS}2 (io), 28 P7_2/TA1OUT/V/CLK2 (io), 29 P7_1/RxD2/SCL/TA0IN/TB5IN (io), 30 P7_0/TxD2/SDA/TA0OUT (io), 31 P6_7/TxD1 (io), 32 P6_6/RxD1 (io), 33 P6_5/CLK1 (io), 34 P6_4/~{CTS}1/~{RTS}1/CLKS1 (io), 35 P6_3/TxD0 (io), 36 P6_2/RxD0 (io), 37 P6_1/CLK0 (io), 38 P6_0/~{CTS}0/~{RTS}0 (io), 39 P5_7/~{RDY}/CLKOUT (io), 40 P5_6/ALE (io), 41 P5_5/~{HOLD} (io), 42 P5_4/~{HLDA} (io), 43 P5_3/BCLK (io), 44 P5_2/~{RD} (io), 45 P5_1/~{WRH}/~{BHE} (io), 46 P5_0/~{WRL}/~{WR} (io), 47 P4_7/~{CS}3 (io), 48 P4_6/~{CS}2 (io), 49 P4_5/~{CS}1 (io), 50 P4_4/~{CS}0 (io), 51 P4_3/A19 (io), 52 P4_2/A18 (io), 53 P4_1/A17 (io), 54 P4_0/A16 (io), 55 P3_7/A15 (io), 56 P3_6/A14 (io), 57 P3_5/A13 (io), 58 P3_4/A12 (io), 59 P3_3/A11 (io), 60 P3_2/A10 (io), 61 P3_1/A9 (io), 63 P3_0/A8, [/-/D7] (io), 65 P2_7/A7, [/D7/D6] (io), 66 P2_6/A6, [/D6/D5] (io), 67 P2_5/A5, [/D5/D4] (io), 68 P2_4/A4, [/D4/D3] (io), 69 P2_3/A3, [/D3/D2] (io), 70 P2_2/A2, [/D2/D1] (io), 71 P2_1/A1 [D1/D0] (io), 72 P2_0/A0, [/D0/-] (io), 73 P1_7/~{INT}5/D15 (io), 74 P1_6/~{INT}4/D14 (io), 75 P1_5/D13/~{INT}3 (io), 76 P1_4/D12 (io), 77 P1_3/D11 (io), 78 P1_2/D10 (io), 79 P1_1/D9 (io), 80 P1_0/D8 (io), 81 P0_7/D7 (io), 82 P0_6/D6 (io), 83 P0_5/D5 (io), 84 P0_4/D4 (io), 85 P0_3/D3 (io), 86 P0_2/D2 (io), 87 P0_1/D1 (io), 88 P0_0/D0 (io), 89 P10_7/~{KI}3/AN_7 (io), 90 P10_6/~{KI}2/AN_6 (io), 91 P10_5/~{KI}1/AN_5 (io), 92 P10_4/~{KI}0/AN_4 (io), 93 P10_3/AN_3 (io), 94 P10_2/AN_2 (io), 95 P10_1/AN_1 (io), 97 P10_0/AN_0 (io), 98 VREF (in), 100 P9_7/~{ADTRG}/SIN4 (io)
part B pins: 14 VSS (power), 16 VCC (power), 62 VCC (power), 64 VSS (power), 96 AVSS (power), 99 AVCC (power)

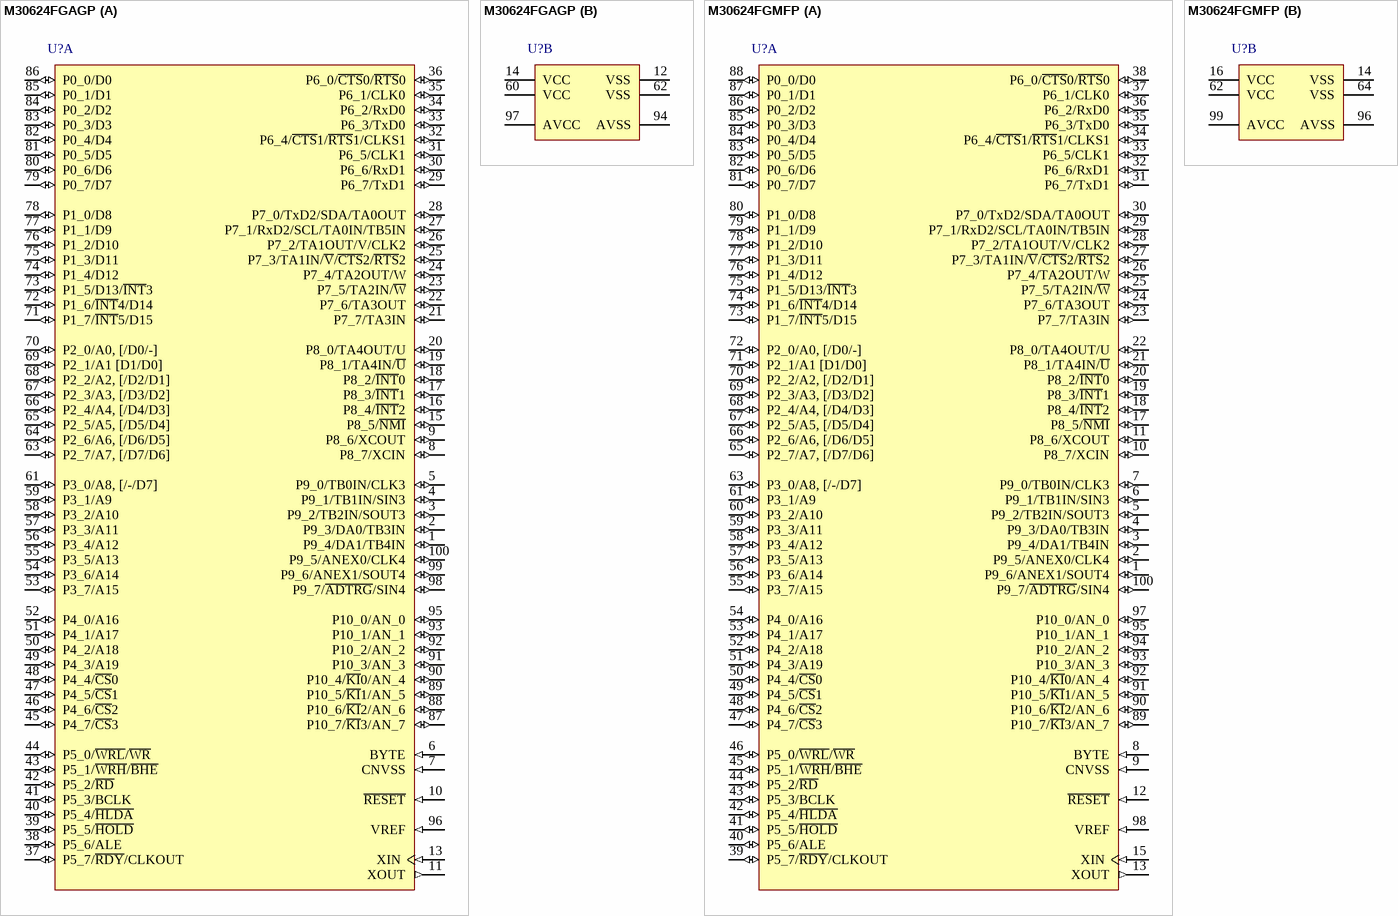
[diagram p111: symbols M30624FGAGP to M30624FGMFP]

## M30624FGAGP
designator U?
Flash Memory M16C/60 Series, 62A Group MCU, 256K ROM, 20K RAM, 100-pin LQFP; Note: P7_0 and P7_1 are N channel open-drain output pins.; Published: 28-Aug-2009; DatasheetVersion: Rev.1.0, Jun-2001; PackageVersion: Sep-2005; PackageReference: PLQP0100KB-A; Publisher: Altium Limited; PackageDescription: 100-Pin Plastic Low Profile QFP, 14 x 14 x 1.4 mm Body, 0.5 mm Pitch; Code_JEITA: P-LQFP100-14x14-0.50; Code_IPC: SQFP50P1600X1600-100; ComponentLink1Description: Manufacturer Link; ComponentLink1URL: http://sg.renesas.com/fmwk.jsp?cnt=m16c_family_landing.jsp&fp=/products/mpumcu/m16c_family/; ComponentLink2Description: Datasheet; ComponentLink2URL: http://documentation.renesas.com/eng/products/mpumcu/62aeum.pdf; ComponentLink3Description: Packaging Specification; ComponentLink3URL: http://sg.renesas.com/media/products/common_info/package/pdf/ic/code/plqp0100kb_a.pdf
footprint PLQP0100KB-A_N (Shrink QFP, 100-Leads, Body 14x14mm, Pitch 0.5mm, IPC Medium Density)
footprint PLQP0100KB-A_L (Shrink QFP, 100-Leads, Body 14x14mm, Pitch 0.5mm, IPC High Density)
footprint PLQP0100KB-A_M (Shrink QFP, 100-Leads, Body 14x14mm, Pitch 0.5mm, IPC Low Density)
part A pins: 1 P9_4/DA1/TB4IN (io), 2 P9_3/DA0/TB3IN (io), 3 P9_2/TB2IN/SOUT3 (io), 4 P9_1/TB1IN/SIN3 (io), 5 P9_0/TB0IN/CLK3 (io), 6 BYTE (in), 7 CNVSS (in), 8 P8_7/XCIN (io), 9 P8_6/XCOUT (io), 10 ~{RESET} (in), 11 XOUT (out), 13 XIN (in), 15 P8_5/~{NMI} (io), 16 P8_4/~{INT}2 (io), 17 P8_3/~{INT}1 (io), 18 P8_2/~{INT}0 (io), 19 P8_1/TA4IN/~{U} (io), 20 P8_0/TA4OUT/U (io), 21 P7_7/TA3IN (io), 22 P7_6/TA3OUT (io), 23 P7_5/TA2IN/~{W} (io), 24 P7_4/TA2OUT/W (io), 25 P7_3/TA1IN/~{V}/~{CTS}2/~{RTS}2 (io), 26 P7_2/TA1OUT/V/CLK2 (io), 27 P7_1/RxD2/SCL/TA0IN/TB5IN (io), 28 P7_0/TxD2/SDA/TA0OUT (io), 29 P6_7/TxD1 (io), 30 P6_6/RxD1 (io), 31 P6_5/CLK1 (io), 32 P6_4/~{CTS}1/~{RTS}1/CLKS1 (io), 33 P6_3/TxD0 (io), 34 P6_2/RxD0 (io), 35 P6_1/CLK0 (io), 36 P6_0/~{CTS}0/~{RTS}0 (io), 37 P5_7/~{RDY}/CLKOUT (io), 38 P5_6/ALE (io), 39 P5_5/~{HOLD} (io), 40 P5_4/~{HLDA} (io), 41 P5_3/BCLK (io), 42 P5_2/~{RD} (io), 43 P5_1/~{WRH}/~{BHE} (io), 44 P5_0/~{WRL}/~{WR} (io), 45 P4_7/~{CS}3 (io), 46 P4_6/~{CS}2 (io), 47 P4_5/~{CS}1 (io), 48 P4_4/~{CS}0 (io), 49 P4_3/A19 (io), 50 P4_2/A18 (io), 51 P4_1/A17 (io), 52 P4_0/A16 (io), 53 P3_7/A15 (io), 54 P3_6/A14 (io), 55 P3_5/A13 (io), 56 P3_4/A12 (io), 57 P3_3/A11 (io), 58 P3_2/A10 (io), 59 P3_1/A9 (io), 61 P3_0/A8, [/-/D7] (io), 63 P2_7/A7, [/D7/D6] (io), 64 P2_6/A6, [/D6/D5] (io), 65 P2_5/A5, [/D5/D4] (io), 66 P2_4/A4, [/D4/D3] (io), 67 P2_3/A3, [/D3/D2] (io), 68 P2_2/A2, [/D2/D1] (io), 69 P2_1/A1 [D1/D0] (io), 70 P2_0/A0, [/D0/-] (io), 71 P1_7/~{INT}5/D15 (io), 72 P1_6/~{INT}4/D14 (io), 73 P1_5/D13/~{INT}3 (io), 74 P1_4/D12 (io), 75 P1_3/D11 (io), 76 P1_2/D10 (io), 77 P1_1/D9 (io), 78 P1_0/D8 (io), 79 P0_7/D7 (io), 80 P0_6/D6 (io), 81 P0_5/D5 (io), 82 P0_4/D4 (io), 83 P0_3/D3 (io), 84 P0_2/D2 (io), 85 P0_1/D1 (io), 86 P0_0/D0 (io), 87 P10_7/~{KI}3/AN_7 (io), 88 P10_6/~{KI}2/AN_6 (io), 89 P10_5/~{KI}1/AN_5 (io), 90 P10_4/~{KI}0/AN_4 (io), 91 P10_3/AN_3 (io), 92 P10_2/AN_2 (io), 93 P10_1/AN_1 (io), 95 P10_0/AN_0 (io), 96 VREF (in), 98 P9_7/~{ADTRG}/SIN4 (io), 99 P9_6/ANEX1/SOUT4 (io), 100 P9_5/ANEX0/CLK4 (io)
part B pins: 12 VSS (power), 14 VCC (power), 60 VCC (power), 62 VSS (power), 94 AVSS (power), 97 AVCC (power)

## M30624FGMFP
designator U?
Flash Memory M16C/60 Series, 62A Group MCU, 256K ROM, 20K RAM, 100-pin RQFP; Note: P7_0 and P7_1 are N channel open-drain output pins.; Published: 28-Aug-2009; DatasheetVersion: Rev.1.0, Jun-2001; PackageVersion: Sep-2005; PackageReference: PRQP0100JB-A; Publisher: Altium Limited; PackageDescription: 100-Pin Plastic Quad Flat Pack, 20 x 14 x 2.8 mm Body, 0.65 mm Pitch; Code_JEITA: P-QFP100-14x20-0.65; ComponentLink1Description: Manufacturer Link; ComponentLink1URL: http://sg.renesas.com/fmwk.jsp?cnt=m16c_family_landing.jsp&fp=/products/mpumcu/m16c_family/; ComponentLink2Description: Datasheet; ComponentLink2URL: http://documentation.renesas.com/eng/products/mpumcu/62aeum.pdf; ComponentLink3Description: Packaging Specification; ComponentLink3URL: http://sg.renesas.com/media/products/common_info/package/pdf/ic/code/prqp0100jb_a.pdf
footprint PRQP0100JB-A_N (QFP, 100-Leads, Body 20x14mm, Pitch 0.65mm, IPC Medium Density)
footprint PRQP0100JB-A_L (QFP, 100-Leads, Body 20x14mm, Pitch 0.65mm, IPC High Density)
footprint PRQP0100JB-A_M (QFP, 100-Leads, Body 20x14mm, Pitch 0.65mm, IPC Low Density)
part A pins: 1 P9_6/ANEX1/SOUT4 (io), 2 P9_5/ANEX0/CLK4 (io), 3 P9_4/DA1/TB4IN (io), 4 P9_3/DA0/TB3IN (io), 5 P9_2/TB2IN/SOUT3 (io), 6 P9_1/TB1IN/SIN3 (io), 7 P9_0/TB0IN/CLK3 (io), 8 BYTE (in), 9 CNVSS (in), 10 P8_7/XCIN (io), 11 P8_6/XCOUT (io), 12 ~{RESET} (in), 13 XOUT (out), 15 XIN (in), 17 P8_5/~{NMI} (io), 18 P8_4/~{INT}2 (io), 19 P8_3/~{INT}1 (io), 20 P8_2/~{INT}0 (io), 21 P8_1/TA4IN/~{U} (io), 22 P8_0/TA4OUT/U (io), 23 P7_7/TA3IN (io), 24 P7_6/TA3OUT (io), 25 P7_5/TA2IN/~{W} (io), 26 P7_4/TA2OUT/W (io), 27 P7_3/TA1IN/~{V}/~{CTS}2/~{RTS}2 (io), 28 P7_2/TA1OUT/V/CLK2 (io), 29 P7_1/RxD2/SCL/TA0IN/TB5IN (io), 30 P7_0/TxD2/SDA/TA0OUT (io), 31 P6_7/TxD1 (io), 32 P6_6/RxD1 (io), 33 P6_5/CLK1 (io), 34 P6_4/~{CTS}1/~{RTS}1/CLKS1 (io), 35 P6_3/TxD0 (io), 36 P6_2/RxD0 (io), 37 P6_1/CLK0 (io), 38 P6_0/~{CTS}0/~{RTS}0 (io), 39 P5_7/~{RDY}/CLKOUT (io), 40 P5_6/ALE (io), 41 P5_5/~{HOLD} (io), 42 P5_4/~{HLDA} (io), 43 P5_3/BCLK (io), 44 P5_2/~{RD} (io), 45 P5_1/~{WRH}/~{BHE} (io), 46 P5_0/~{WRL}/~{WR} (io), 47 P4_7/~{CS}3 (io), 48 P4_6/~{CS}2 (io), 49 P4_5/~{CS}1 (io), 50 P4_4/~{CS}0 (io), 51 P4_3/A19 (io), 52 P4_2/A18 (io), 53 P4_1/A17 (io), 54 P4_0/A16 (io), 55 P3_7/A15 (io), 56 P3_6/A14 (io), 57 P3_5/A13 (io), 58 P3_4/A12 (io), 59 P3_3/A11 (io), 60 P3_2/A10 (io), 61 P3_1/A9 (io), 63 P3_0/A8, [/-/D7] (io), 65 P2_7/A7, [/D7/D6] (io), 66 P2_6/A6, [/D6/D5] (io), 67 P2_5/A5, [/D5/D4] (io), 68 P2_4/A4, [/D4/D3] (io), 69 P2_3/A3, [/D3/D2] (io), 70 P2_2/A2, [/D2/D1] (io), 71 P2_1/A1 [D1/D0] (io), 72 P2_0/A0, [/D0/-] (io), 73 P1_7/~{INT}5/D15 (io), 74 P1_6/~{INT}4/D14 (io), 75 P1_5/D13/~{INT}3 (io), 76 P1_4/D12 (io), 77 P1_3/D11 (io), 78 P1_2/D10 (io), 79 P1_1/D9 (io), 80 P1_0/D8 (io), 81 P0_7/D7 (io), 82 P0_6/D6 (io), 83 P0_5/D5 (io), 84 P0_4/D4 (io), 85 P0_3/D3 (io), 86 P0_2/D2 (io), 87 P0_1/D1 (io), 88 P0_0/D0 (io), 89 P10_7/~{KI}3/AN_7 (io), 90 P10_6/~{KI}2/AN_6 (io), 91 P10_5/~{KI}1/AN_5 (io), 92 P10_4/~{KI}0/AN_4 (io), 93 P10_3/AN_3 (io), 94 P10_2/AN_2 (io), 95 P10_1/AN_1 (io), 97 P10_0/AN_0 (io), 98 VREF (in), 100 P9_7/~{ADTRG}/SIN4 (io)
part B pins: 14 VSS (power), 16 VCC (power), 62 VCC (power), 64 VSS (power), 96 AVSS (power), 99 AVCC (power)

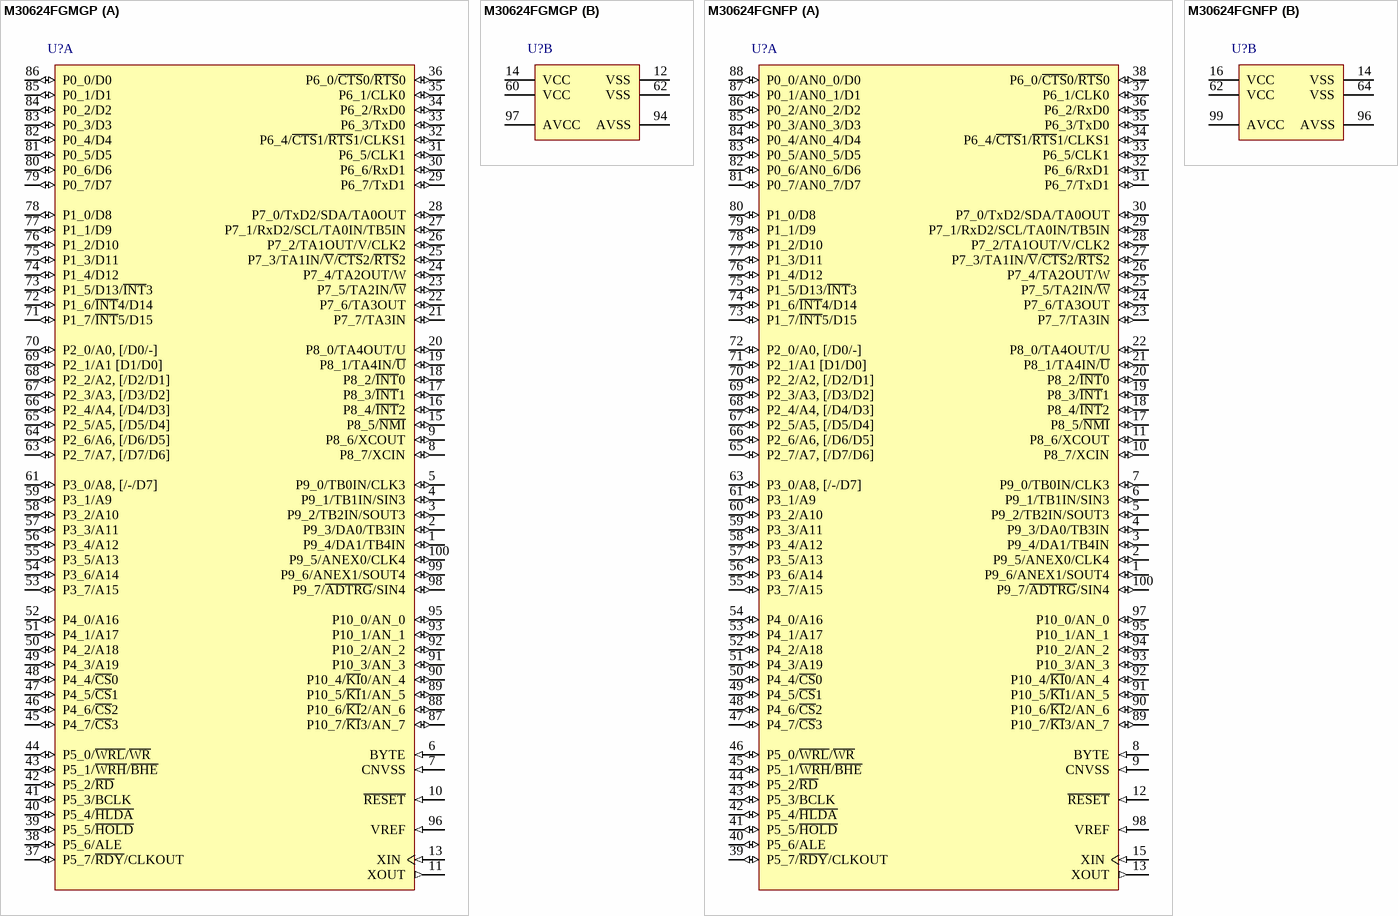
[diagram p112: symbols M30624FGMGP to M30624FGNFP]

## M30624FGMGP
designator U?
Flash Memory M16C/60 Series, 62A Group MCU, 256K ROM, 20K RAM, 100-pin LQFP; Note: P7_0 and P7_1 are N channel open-drain output pins.; Published: 28-Aug-2009; DatasheetVersion: Rev.1.0, Jun-2001; PackageVersion: Sep-2005; PackageReference: PLQP0100KB-A; Publisher: Altium Limited; PackageDescription: 100-Pin Plastic Low Profile QFP, 14 x 14 x 1.4 mm Body, 0.5 mm Pitch; Code_JEITA: P-LQFP100-14x14-0.50; Code_IPC: SQFP50P1600X1600-100; ComponentLink1Description: Manufacturer Link; ComponentLink1URL: http://sg.renesas.com/fmwk.jsp?cnt=m16c_family_landing.jsp&fp=/products/mpumcu/m16c_family/; ComponentLink2Description: Datasheet; ComponentLink2URL: http://documentation.renesas.com/eng/products/mpumcu/62aeum.pdf; ComponentLink3Description: Packaging Specification; ComponentLink3URL: http://sg.renesas.com/media/products/common_info/package/pdf/ic/code/plqp0100kb_a.pdf
footprint PLQP0100KB-A_N (Shrink QFP, 100-Leads, Body 14x14mm, Pitch 0.5mm, IPC Medium Density)
footprint PLQP0100KB-A_L (Shrink QFP, 100-Leads, Body 14x14mm, Pitch 0.5mm, IPC High Density)
footprint PLQP0100KB-A_M (Shrink QFP, 100-Leads, Body 14x14mm, Pitch 0.5mm, IPC Low Density)
part A pins: 1 P9_4/DA1/TB4IN (io), 2 P9_3/DA0/TB3IN (io), 3 P9_2/TB2IN/SOUT3 (io), 4 P9_1/TB1IN/SIN3 (io), 5 P9_0/TB0IN/CLK3 (io), 6 BYTE (in), 7 CNVSS (in), 8 P8_7/XCIN (io), 9 P8_6/XCOUT (io), 10 ~{RESET} (in), 11 XOUT (out), 13 XIN (in), 15 P8_5/~{NMI} (io), 16 P8_4/~{INT}2 (io), 17 P8_3/~{INT}1 (io), 18 P8_2/~{INT}0 (io), 19 P8_1/TA4IN/~{U} (io), 20 P8_0/TA4OUT/U (io), 21 P7_7/TA3IN (io), 22 P7_6/TA3OUT (io), 23 P7_5/TA2IN/~{W} (io), 24 P7_4/TA2OUT/W (io), 25 P7_3/TA1IN/~{V}/~{CTS}2/~{RTS}2 (io), 26 P7_2/TA1OUT/V/CLK2 (io), 27 P7_1/RxD2/SCL/TA0IN/TB5IN (io), 28 P7_0/TxD2/SDA/TA0OUT (io), 29 P6_7/TxD1 (io), 30 P6_6/RxD1 (io), 31 P6_5/CLK1 (io), 32 P6_4/~{CTS}1/~{RTS}1/CLKS1 (io), 33 P6_3/TxD0 (io), 34 P6_2/RxD0 (io), 35 P6_1/CLK0 (io), 36 P6_0/~{CTS}0/~{RTS}0 (io), 37 P5_7/~{RDY}/CLKOUT (io), 38 P5_6/ALE (io), 39 P5_5/~{HOLD} (io), 40 P5_4/~{HLDA} (io), 41 P5_3/BCLK (io), 42 P5_2/~{RD} (io), 43 P5_1/~{WRH}/~{BHE} (io), 44 P5_0/~{WRL}/~{WR} (io), 45 P4_7/~{CS}3 (io), 46 P4_6/~{CS}2 (io), 47 P4_5/~{CS}1 (io), 48 P4_4/~{CS}0 (io), 49 P4_3/A19 (io), 50 P4_2/A18 (io), 51 P4_1/A17 (io), 52 P4_0/A16 (io), 53 P3_7/A15 (io), 54 P3_6/A14 (io), 55 P3_5/A13 (io), 56 P3_4/A12 (io), 57 P3_3/A11 (io), 58 P3_2/A10 (io), 59 P3_1/A9 (io), 61 P3_0/A8, [/-/D7] (io), 63 P2_7/A7, [/D7/D6] (io), 64 P2_6/A6, [/D6/D5] (io), 65 P2_5/A5, [/D5/D4] (io), 66 P2_4/A4, [/D4/D3] (io), 67 P2_3/A3, [/D3/D2] (io), 68 P2_2/A2, [/D2/D1] (io), 69 P2_1/A1 [D1/D0] (io), 70 P2_0/A0, [/D0/-] (io), 71 P1_7/~{INT}5/D15 (io), 72 P1_6/~{INT}4/D14 (io), 73 P1_5/D13/~{INT}3 (io), 74 P1_4/D12 (io), 75 P1_3/D11 (io), 76 P1_2/D10 (io), 77 P1_1/D9 (io), 78 P1_0/D8 (io), 79 P0_7/D7 (io), 80 P0_6/D6 (io), 81 P0_5/D5 (io), 82 P0_4/D4 (io), 83 P0_3/D3 (io), 84 P0_2/D2 (io), 85 P0_1/D1 (io), 86 P0_0/D0 (io), 87 P10_7/~{KI}3/AN_7 (io), 88 P10_6/~{KI}2/AN_6 (io), 89 P10_5/~{KI}1/AN_5 (io), 90 P10_4/~{KI}0/AN_4 (io), 91 P10_3/AN_3 (io), 92 P10_2/AN_2 (io), 93 P10_1/AN_1 (io), 95 P10_0/AN_0 (io), 96 VREF (in), 98 P9_7/~{ADTRG}/SIN4 (io), 99 P9_6/ANEX1/SOUT4 (io), 100 P9_5/ANEX0/CLK4 (io)
part B pins: 12 VSS (power), 14 VCC (power), 60 VCC (power), 62 VSS (power), 94 AVSS (power), 97 AVCC (power)

## M30624FGNFP
designator U?
Flash Memory M16C/60 Series, 62N Group MCU, 256K ROM, 20K RAM, 100-pin RQFP; Note: P7_0 and P7_1 are N channel open-drain output pins.; Published: 28-Aug-2009; DatasheetVersion: Rev.1.1, Aug-2002; PackageVersion: Sep-2005; PackageReference: PRQP0100JB-A; Publisher: Altium Limited; PackageDescription: 100-Pin Plastic Quad Flat Pack, 20 x 14 x 2.8 mm Body, 0.65 mm Pitch; Code_JEITA: P-QFP100-14x20-0.65; ComponentLink1Description: Manufacturer Link; ComponentLink1URL: http://sg.renesas.com/fmwk.jsp?cnt=m16c_family_landing.jsp&fp=/products/mpumcu/m16c_family/; ComponentLink2Description: Datasheet; ComponentLink2URL: http://documentation.renesas.com/eng/products/mpumcu/e62nds.pdf; ComponentLink3Description: Packaging Specification; ComponentLink3URL: http://sg.renesas.com/media/products/common_info/package/pdf/ic/code/prqp0100jb_a.pdf
footprint PRQP0100JB-A_N (QFP, 100-Leads, Body 20x14mm, Pitch 0.65mm, IPC Medium Density)
footprint PRQP0100JB-A_L (QFP, 100-Leads, Body 20x14mm, Pitch 0.65mm, IPC High Density)
footprint PRQP0100JB-A_M (QFP, 100-Leads, Body 20x14mm, Pitch 0.65mm, IPC Low Density)
part A pins: 1 P9_6/ANEX1/SOUT4 (io), 2 P9_5/ANEX0/CLK4 (io), 3 P9_4/DA1/TB4IN (io), 4 P9_3/DA0/TB3IN (io), 5 P9_2/TB2IN/SOUT3 (io), 6 P9_1/TB1IN/SIN3 (io), 7 P9_0/TB0IN/CLK3 (io), 8 BYTE (in), 9 CNVSS (in), 10 P8_7/XCIN (io), 11 P8_6/XCOUT (io), 12 ~{RESET} (in), 13 XOUT (out), 15 XIN (in), 17 P8_5/~{NMI} (io), 18 P8_4/~{INT}2 (io), 19 P8_3/~{INT}1 (io), 20 P8_2/~{INT}0 (io), 21 P8_1/TA4IN/~{U} (io), 22 P8_0/TA4OUT/U (io), 23 P7_7/TA3IN (io), 24 P7_6/TA3OUT (io), 25 P7_5/TA2IN/~{W} (io), 26 P7_4/TA2OUT/W (io), 27 P7_3/TA1IN/~{V}/~{CTS}2/~{RTS}2 (io), 28 P7_2/TA1OUT/V/CLK2 (io), 29 P7_1/RxD2/SCL/TA0IN/TB5IN (io), 30 P7_0/TxD2/SDA/TA0OUT (io), 31 P6_7/TxD1 (io), 32 P6_6/RxD1 (io), 33 P6_5/CLK1 (io), 34 P6_4/~{CTS}1/~{RTS}1/CLKS1 (io), 35 P6_3/TxD0 (io), 36 P6_2/RxD0 (io), 37 P6_1/CLK0 (io), 38 P6_0/~{CTS}0/~{RTS}0 (io), 39 P5_7/~{RDY}/CLKOUT (io), 40 P5_6/ALE (io), 41 P5_5/~{HOLD} (io), 42 P5_4/~{HLDA} (io), 43 P5_3/BCLK (io), 44 P5_2/~{RD} (io), 45 P5_1/~{WRH}/~{BHE} (io), 46 P5_0/~{WRL}/~{WR} (io), 47 P4_7/~{CS}3 (io), 48 P4_6/~{CS}2 (io), 49 P4_5/~{CS}1 (io), 50 P4_4/~{CS}0 (io), 51 P4_3/A19 (io), 52 P4_2/A18 (io), 53 P4_1/A17 (io), 54 P4_0/A16 (io), 55 P3_7/A15 (io), 56 P3_6/A14 (io), 57 P3_5/A13 (io), 58 P3_4/A12 (io), 59 P3_3/A11 (io), 60 P3_2/A10 (io), 61 P3_1/A9 (io), 63 P3_0/A8, [/-/D7] (io), 65 P2_7/A7, [/D7/D6] (io), 66 P2_6/A6, [/D6/D5] (io), 67 P2_5/A5, [/D5/D4] (io), 68 P2_4/A4, [/D4/D3] (io), 69 P2_3/A3, [/D3/D2] (io), 70 P2_2/A2, [/D2/D1] (io), 71 P2_1/A1 [D1/D0] (io), 72 P2_0/A0, [/D0/-] (io), 73 P1_7/~{INT}5/D15 (io), 74 P1_6/~{INT}4/D14 (io), 75 P1_5/D13/~{INT}3 (io), 76 P1_4/D12 (io), 77 P1_3/D11 (io), 78 P1_2/D10 (io), 79 P1_1/D9 (io), 80 P1_0/D8 (io), 81 P0_7/AN0_7/D7 (io), 82 P0_6/AN0_6/D6 (io), 83 P0_5/AN0_5/D5 (io), 84 P0_4/AN0_4/D4 (io), 85 P0_3/AN0_3/D3 (io), 86 P0_2/AN0_2/D2 (io), 87 P0_1/AN0_1/D1 (io), 88 P0_0/AN0_0/D0 (io), 89 P10_7/~{KI}3/AN_7 (io), 90 P10_6/~{KI}2/AN_6 (io), 91 P10_5/~{KI}1/AN_5 (io), 92 P10_4/~{KI}0/AN_4 (io), 93 P10_3/AN_3 (io), 94 P10_2/AN_2 (io), 95 P10_1/AN_1 (io), 97 P10_0/AN_0 (io), 98 VREF (in), 100 P9_7/~{ADTRG}/SIN4 (io)
part B pins: 14 VSS (power), 16 VCC (power), 62 VCC (power), 64 VSS (power), 96 AVSS (power), 99 AVCC (power)

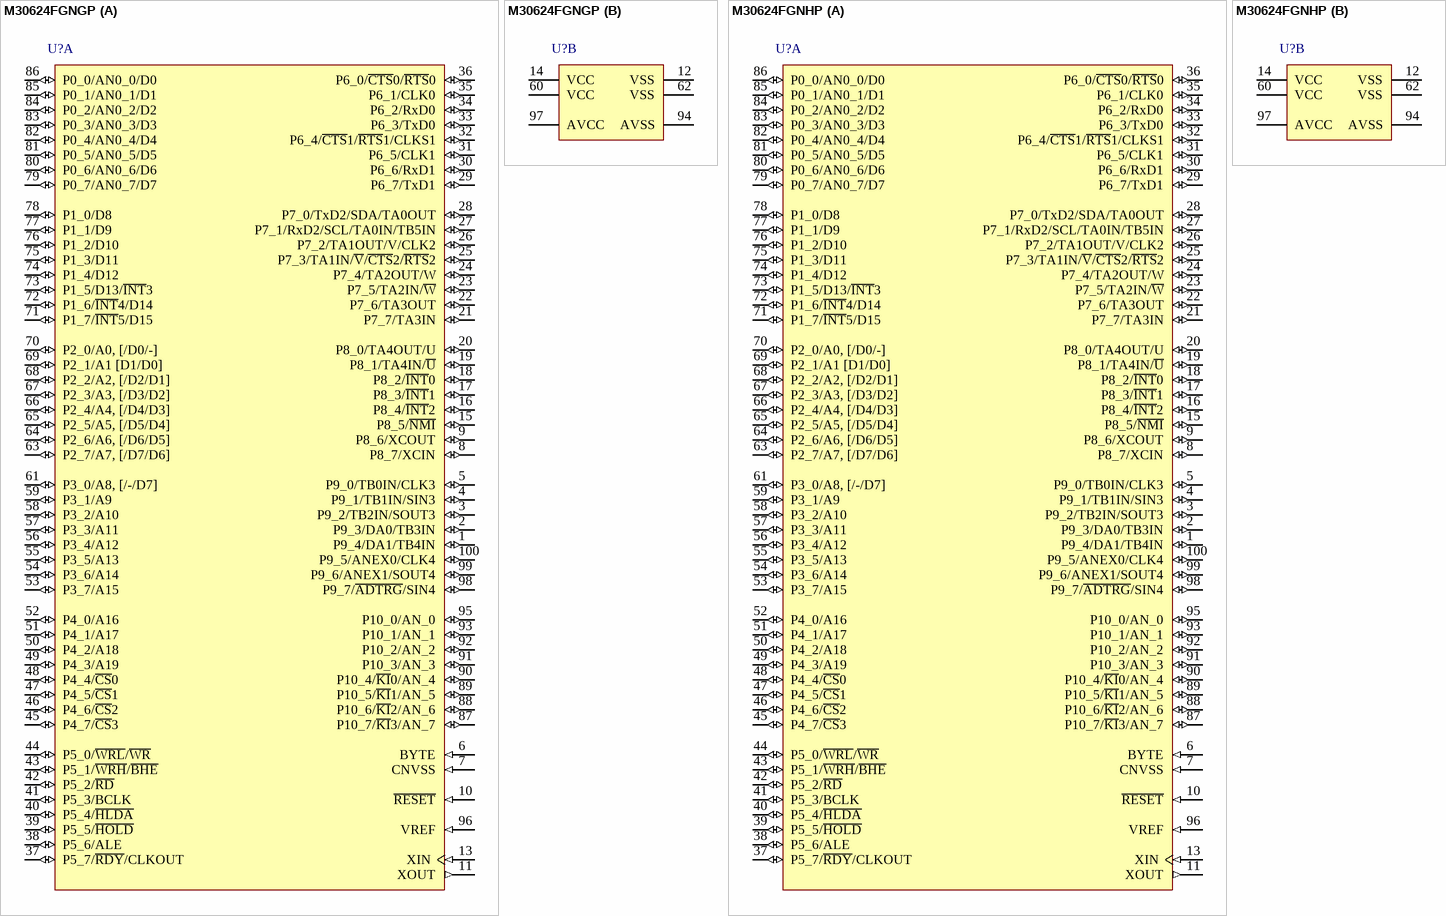
[diagram p113: symbols M30624FGNGP to M30624FGNHP]

## M30624FGNGP
designator U?
Flash Memory M16C/60 Series, 62N Group MCU, 256K ROM, 20K RAM, 100-pin LQFP; Note: P7_0 and P7_1 are N channel open-drain output pins.; Published: 28-Aug-2009; DatasheetVersion: Rev.1.1, Aug-2002; PackageVersion: Sep-2005; PackageReference: PLQP0100KB-A; Publisher: Altium Limited; PackageDescription: 100-Pin Plastic Low Profile QFP, 14 x 14 x 1.4 mm Body, 0.5 mm Pitch; Code_JEITA: P-LQFP100-14x14-0.50; Code_IPC: SQFP50P1600X1600-100; ComponentLink1Description: Manufacturer Link; ComponentLink1URL: http://sg.renesas.com/fmwk.jsp?cnt=m16c_family_landing.jsp&fp=/products/mpumcu/m16c_family/; ComponentLink2Description: Datasheet; ComponentLink2URL: http://documentation.renesas.com/eng/products/mpumcu/e62nds.pdf; ComponentLink3Description: Packaging Specification; ComponentLink3URL: http://sg.renesas.com/media/products/common_info/package/pdf/ic/code/plqp0100kb_a.pdf
footprint PLQP0100KB-A_N (Shrink QFP, 100-Leads, Body 14x14mm, Pitch 0.5mm, IPC Medium Density)
footprint PLQP0100KB-A_L (Shrink QFP, 100-Leads, Body 14x14mm, Pitch 0.5mm, IPC High Density)
footprint PLQP0100KB-A_M (Shrink QFP, 100-Leads, Body 14x14mm, Pitch 0.5mm, IPC Low Density)
part A pins: 1 P9_4/DA1/TB4IN (io), 2 P9_3/DA0/TB3IN (io), 3 P9_2/TB2IN/SOUT3 (io), 4 P9_1/TB1IN/SIN3 (io), 5 P9_0/TB0IN/CLK3 (io), 6 BYTE (in), 7 CNVSS (in), 8 P8_7/XCIN (io), 9 P8_6/XCOUT (io), 10 ~{RESET} (in), 11 XOUT (out), 13 XIN (in), 15 P8_5/~{NMI} (io), 16 P8_4/~{INT}2 (io), 17 P8_3/~{INT}1 (io), 18 P8_2/~{INT}0 (io), 19 P8_1/TA4IN/~{U} (io), 20 P8_0/TA4OUT/U (io), 21 P7_7/TA3IN (io), 22 P7_6/TA3OUT (io), 23 P7_5/TA2IN/~{W} (io), 24 P7_4/TA2OUT/W (io), 25 P7_3/TA1IN/~{V}/~{CTS}2/~{RTS}2 (io), 26 P7_2/TA1OUT/V/CLK2 (io), 27 P7_1/RxD2/SCL/TA0IN/TB5IN (io), 28 P7_0/TxD2/SDA/TA0OUT (io), 29 P6_7/TxD1 (io), 30 P6_6/RxD1 (io), 31 P6_5/CLK1 (io), 32 P6_4/~{CTS}1/~{RTS}1/CLKS1 (io), 33 P6_3/TxD0 (io), 34 P6_2/RxD0 (io), 35 P6_1/CLK0 (io), 36 P6_0/~{CTS}0/~{RTS}0 (io), 37 P5_7/~{RDY}/CLKOUT (io), 38 P5_6/ALE (io), 39 P5_5/~{HOLD} (io), 40 P5_4/~{HLDA} (io), 41 P5_3/BCLK (io), 42 P5_2/~{RD} (io), 43 P5_1/~{WRH}/~{BHE} (io), 44 P5_0/~{WRL}/~{WR} (io), 45 P4_7/~{CS}3 (io), 46 P4_6/~{CS}2 (io), 47 P4_5/~{CS}1 (io), 48 P4_4/~{CS}0 (io), 49 P4_3/A19 (io), 50 P4_2/A18 (io), 51 P4_1/A17 (io), 52 P4_0/A16 (io), 53 P3_7/A15 (io), 54 P3_6/A14 (io), 55 P3_5/A13 (io), 56 P3_4/A12 (io), 57 P3_3/A11 (io), 58 P3_2/A10 (io), 59 P3_1/A9 (io), 61 P3_0/A8, [/-/D7] (io), 63 P2_7/A7, [/D7/D6] (io), 64 P2_6/A6, [/D6/D5] (io), 65 P2_5/A5, [/D5/D4] (io), 66 P2_4/A4, [/D4/D3] (io), 67 P2_3/A3, [/D3/D2] (io), 68 P2_2/A2, [/D2/D1] (io), 69 P2_1/A1 [D1/D0] (io), 70 P2_0/A0, [/D0/-] (io), 71 P1_7/~{INT}5/D15 (io), 72 P1_6/~{INT}4/D14 (io), 73 P1_5/D13/~{INT}3 (io), 74 P1_4/D12 (io), 75 P1_3/D11 (io), 76 P1_2/D10 (io), 77 P1_1/D9 (io), 78 P1_0/D8 (io), 79 P0_7/AN0_7/D7 (io), 80 P0_6/AN0_6/D6 (io), 81 P0_5/AN0_5/D5 (io), 82 P0_4/AN0_4/D4 (io), 83 P0_3/AN0_3/D3 (io), 84 P0_2/AN0_2/D2 (io), 85 P0_1/AN0_1/D1 (io), 86 P0_0/AN0_0/D0 (io), 87 P10_7/~{KI}3/AN_7 (io), 88 P10_6/~{KI}2/AN_6 (io), 89 P10_5/~{KI}1/AN_5 (io), 90 P10_4/~{KI}0/AN_4 (io), 91 P10_3/AN_3 (io), 92 P10_2/AN_2 (io), 93 P10_1/AN_1 (io), 95 P10_0/AN_0 (io), 96 VREF (in), 98 P9_7/~{ADTRG}/SIN4 (io), 99 P9_6/ANEX1/SOUT4 (io), 100 P9_5/ANEX0/CLK4 (io)
part B pins: 12 VSS (power), 14 VCC (power), 60 VCC (power), 62 VSS (power), 94 AVSS (power), 97 AVCC (power)